# Altium schematic symbol library Schlib_Xilinx.SchLib: 18 symbols (part 2 of 5)
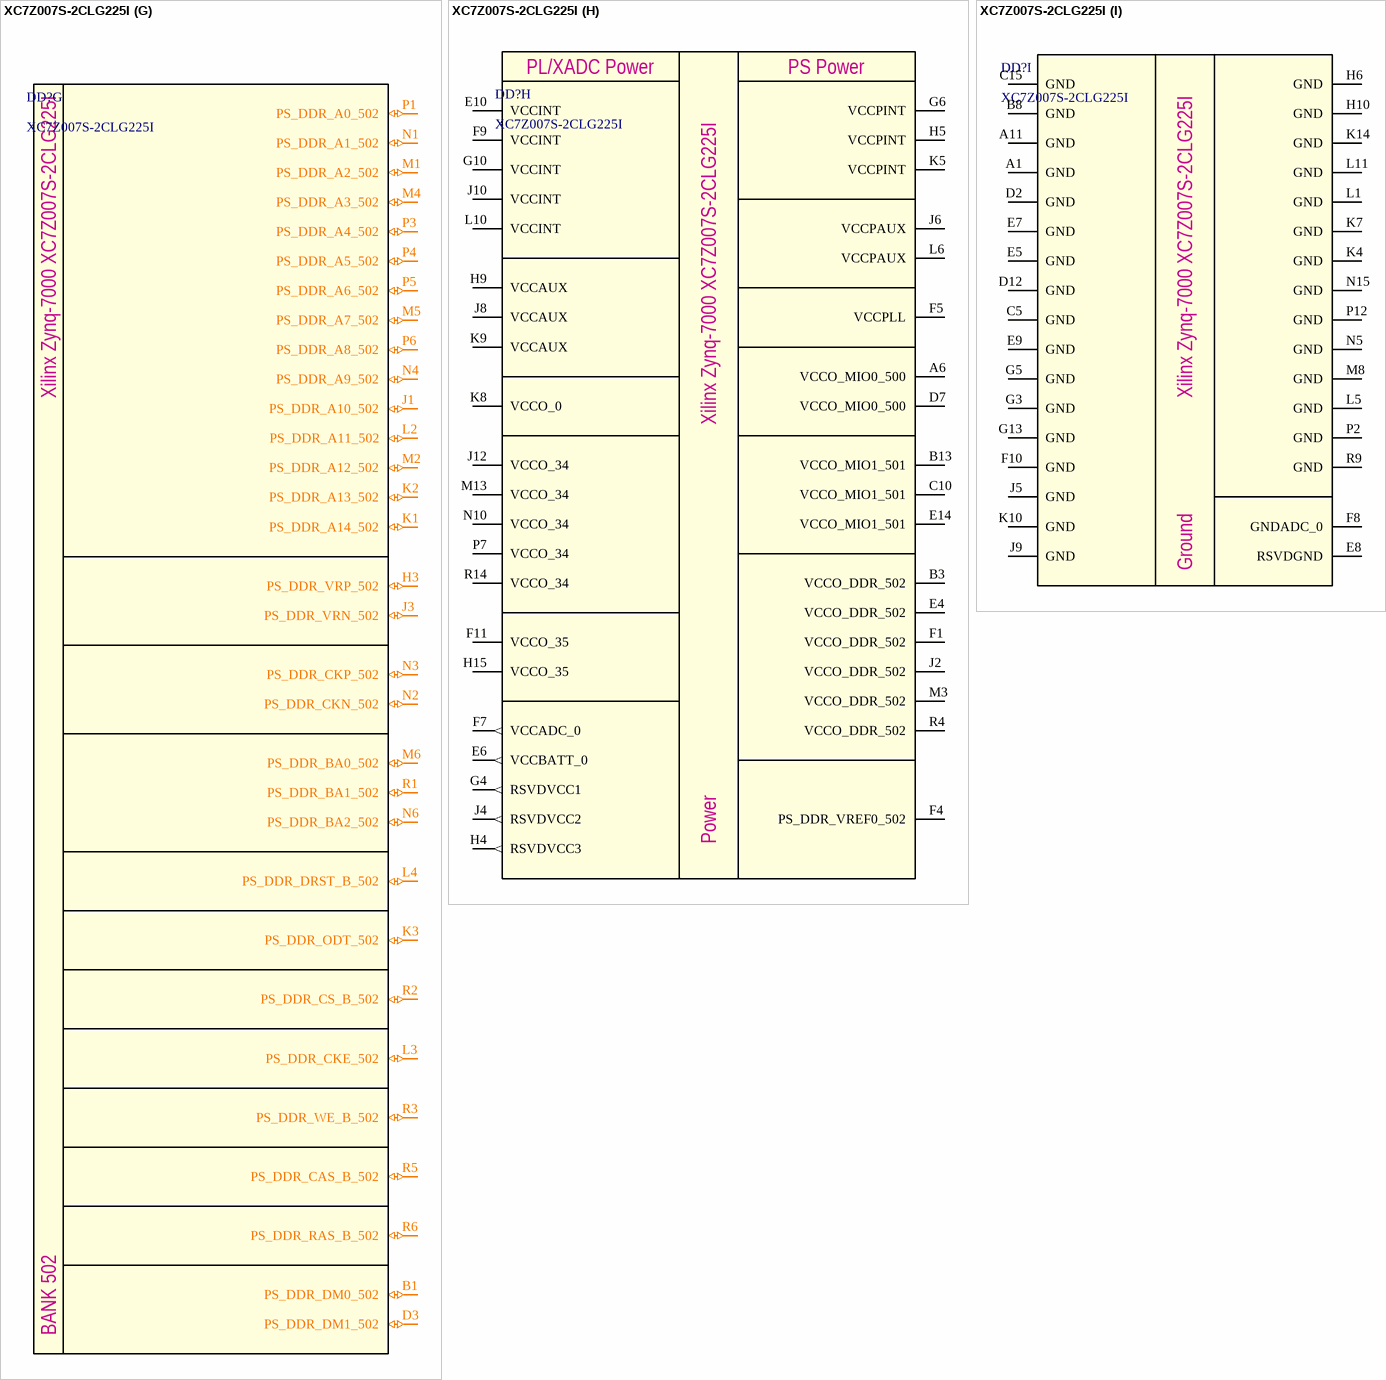
[diagram p58: symbol XC7Z007S-2CLG225I]

## XC7Z007S-2CLG225I
designator DD?
Zynq-7000 Series SoC, Speed Grade 2, Industrial Grade; Manufacturer: Xilinx; Speed Grade: -2; PackageReference: FBG225; Part Number: XC7Z007S-2CLG225I
footprint CLG225 (CLG225, 225-Leads, Body 15.00x15.00mmx1.50mm, Pitch 0.80mm)
part A pins: D5 INIT_B_0 (in), F6 CFGBVS_0 (in), G7 VP_0 (in), G8 VREFN_0 (in), G9 TCK_0 (in), H7 VREFP_0 (in), H8 VN_0 (in), J7 DXP_0 (in), K6 PROGRAM_B_0 (in), L7 TDI_0 (in), L8 TDO_0 (out), L9 TMS_0 (in), M7 DONE_0 (out)
part B pins: G11 IO_L1P_T0_34 (io), G12 IO_L2P_T0_34 (io), G14 IO_L3P_T0_DQS_PUDC_B_34 (io), H11 IO_L6P_T0_34 (io), H12 IO_L1N_T0_34 (io), H13 IO_L2N_T0_34 (io), H14 IO_L3N_T0_DQS_34 (io), J11 IO_L6N_T0_VREF_34 (io), J13 IO_L5P_T0_34 (io), J14 IO_L5N_T0_34 (io), J15 IO_L4P_T0_34 (io), K11 IO_L11P_T1_SRCC_34 (io), K12 IO_L11N_T1_SRCC_34 (io), K13 IO_L10P_T1_34 (io), K15 IO_L4N_T0_34 (io), L12 IO_L12P_T1_MRCC_34 (io), L13 IO_L10N_T1_34 (io), L14 IO_L9P_T1_DQS_34 (io), L15 IO_L8P_T1_34 (io), M9 IO_L19P_T3_34 (io), M10 IO_L21P_T3_DQS_34 (io), M11 IO_L21N_T3_DQS_34 (io), M12 IO_L12N_T1_MRCC_34 (io), M14 IO_L9N_T1_DQS_34 (io), M15 IO_L8N_T1_34 (io), N7 IO_L22P_T3_34 (io), N8 IO_L22N_T3_34 (io), N9 IO_L19N_T3_VREF_34 (io), N11 IO_L13P_T2_MRCC_34 (io), N12 IO_L13N_T2_MRCC_34 (io), N13 IO_L7P_T1_34 (io), N14 IO_L7N_T1_34 (io), P8 IO_L23P_T3_34 (io), P9 IO_L23N_T3_34 (io), P10 IO_L24P_T3_34 (io), P11 IO_L16P_T2_34 (io), P13 IO_L18P_T2_34 (io), P14 IO_L18N_T2_34 (io), P15 IO_L15P_T2_DQS_34 (io), R7 IO_L20P_T3_34 (io), R8 IO_L20N_T3_34 (io), R10 IO_L24N_T3_34 (io), R11 IO_L16N_T2_34 (io), R12 IO_L17P_T2_34 (io), R13 IO_L17N_T2_34 (io), R15 IO_L15N_T2_DQS_34 (io)
part C pins: E11 IO_L2P_T0_AD8P_35 (io), E12 IO_L2N_T0_AD8N_35 (io), E13 IO_L1N_T0_AD0N_35 (io), F12 IO_L1P_T0_AD0P_35 (io), F13 IO_L3P_T0_DQS_AD1P_35 (io), F14 IO_L3N_T0_DQS_AD1N_35 (io), F15 IO_L5N_T0_AD9N_35 (io), G15 IO_L5P_T0_AD9P_35 (io)
part D pins: A5 PS_MIO1_500 (io), A7 PS_MIO3_500 (io), A8 PS_MIO2_500 (io), A9 PS_MIO5_500 (io), A10 PS_MIO6_500 (io), B5 PS_MIO9_500 (io), B6 PS_MIO8_500 (io), B7 PS_MIO12_500 (io), B9 PS_MIO14_500 (io), B10 PS_MIO11_500 (io), C6 PS_MIO13_500 (io), C7 PS_CLK_500 (io), C8 PS_MIO4_500 (io), C9 PS_POR_B_500 (io), D6 PS_MIO10_500 (io), D8 PS_MIO0_500 (io), D9 PS_MIO7_500 (io), D10 PS_MIO15_500 (io)
part E pins: A12 PS_MIO52_501 (io), A13 PS_MIO38_501 (io), A14 PS_MIO35_501 (io), A15 PS_MIO28_501 (io), B11 PS_SRST_B_501 (io), B12 PS_MIO48_501 (io), B14 PS_MIO36_501 (io), B15 PS_MIO30_501 (io), C11 PS_MIO33_501 (io), C12 PS_MIO31_501 (io), C13 PS_MIO53_501 (io), C14 PS_MIO37_501 (io), D11 PS_MIO29_501 (io), D13 PS_MIO49_501 (io), D14 PS_MIO39_501 (io), D15 PS_MIO34_501 (io), E15 PS_MIO32_501 (io)
part F pins: A2 PS_DDR_DQ1_502 (io), A3 PS_DDR_DQ7_502 (io), A4 PS_DDR_DQ5_502 (io), B2 PS_DDR_DQS_N0_502 (io), B4 PS_DDR_DQ4_502 (io), C1 PS_DDR_DQ3_502 (io), C2 PS_DDR_DQS_P0_502 (io), C3 PS_DDR_DQ6_502 (io), C4 PS_DDR_DQ2_502 (io), D1 PS_DDR_DQ9_502 (io), D4 PS_DDR_DQ0_502 (io), E1 PS_DDR_DQ8_502 (io), E2 PS_DDR_DQ10_502 (io), E3 PS_DDR_DQ11_502 (io), F2 PS_DDR_DQS_N1_502 (io), F3 PS_DDR_DQ12_502 (io), G1 PS_DDR_DQ13_502 (io), G2 PS_DDR_DQS_P1_502 (io), H1 PS_DDR_DQ14_502 (io), H2 PS_DDR_DQ15_502 (io)
part G pins: B1 PS_DDR_DM0_502 (io), D3 PS_DDR_DM1_502 (io), H3 PS_DDR_VRP_502 (io), J1 PS_DDR_A10_502 (io), J3 PS_DDR_VRN_502 (io), K1 PS_DDR_A14_502 (io), K2 PS_DDR_A13_502 (io), K3 PS_DDR_ODT_502 (io), L2 PS_DDR_A11_502 (io), L3 PS_DDR_CKE_502 (io), L4 PS_DDR_DRST_B_502 (io), M1 PS_DDR_A2_502 (io), M2 PS_DDR_A12_502 (io), M4 PS_DDR_A3_502 (io), M5 PS_DDR_A7_502 (io), M6 PS_DDR_BA0_502 (io), N1 PS_DDR_A1_502 (io), N2 PS_DDR_CKN_502 (io), N3 PS_DDR_CKP_502 (io), N4 PS_DDR_A9_502 (io), N6 PS_DDR_BA2_502 (io), P1 PS_DDR_A0_502 (io), P3 PS_DDR_A4_502 (io), P4 PS_DDR_A5_502 (io), P5 PS_DDR_A6_502 (io), P6 PS_DDR_A8_502 (io), R1 PS_DDR_BA1_502 (io), R2 PS_DDR_CS_B_502 (io), R3 PS_DDR_WE_B_502 (io), R5 PS_DDR_CAS_B_502 (io), R6 PS_DDR_RAS_B_502 (io)
part H pins: A6 VCCO_MIO0_500 (power), B3 VCCO_DDR_502 (power), B13 VCCO_MIO1_501 (power), C10 VCCO_MIO1_501 (power), D7 VCCO_MIO0_500 (power), E4 VCCO_DDR_502 (power), E6 VCCBATT_0 (out), E10 VCCINT (power), E14 VCCO_MIO1_501 (power), F1 VCCO_DDR_502 (power), F4 PS_DDR_VREF0_502 (power), F5 VCCPLL (power), F7 VCCADC_0 (out), F9 VCCINT (power), F11 VCCO_35 (power), G4 RSVDVCC1 (out), G6 VCCPINT (power), G10 VCCINT (power), H4 RSVDVCC3 (out), H5 VCCPINT (power), H9 VCCAUX (power), H15 VCCO_35 (power), J2 VCCO_DDR_502 (power), J4 RSVDVCC2 (out), J6 VCCPAUX (power), J8 VCCAUX (power), J10 VCCINT (power), J12 VCCO_34 (power), K5 VCCPINT (power), K8 VCCO_0 (power), K9 VCCAUX (power), L6 VCCPAUX (power), L10 VCCINT (power), M3 VCCO_DDR_502 (power), M13 VCCO_34 (power), N10 VCCO_34 (power), P7 VCCO_34 (power), R4 VCCO_DDR_502 (power), R14 VCCO_34 (power)
part I pins: A1 GND (power), A11 GND (power), B8 GND (power), C5 GND (power), C15 GND (power), D2 GND (power), D12 GND (power), E5 GND (power), E7 GND (power), E8 RSVDGND (power), E9 GND (power), F8 GNDADC_0 (power), F10 GND (power), G3 GND (power), G5 GND (power), G13 GND (power), H6 GND (power), H10 GND (power), J5 GND (power), J9 GND (power), K4 GND (power), K7 GND (power), K10 GND (power), K14 GND (power), L1 GND (power), L5 GND (power), L11 GND (power), M8 GND (power), N5 GND (power), N15 GND (power), P2 GND (power), P12 GND (power), R9 GND (power)
part A text: Xilinx Zynq-7000 XC7Z007S-2CLG225I; BANK 0
part B text: Xilinx Zynq-7000 XC7Z007S-2CLG225I; BANK 34
part C text: Xilinx Zynq-7000 XC7Z007S-2CLG225I; BANK 35
part D text: Xilinx Zynq-7000 XC7Z007S-2CLG225I; BANK 500
part E text: Xilinx Zynq-7000 XC7Z007S-2CLG225I; BANK 501
part F text: Xilinx Zynq-7000 XC7Z007S-2CLG225I; BANK 502
part G text: Xilinx Zynq-7000 XC7Z007S-2CLG225I; BANK 502
part H text: PL/XADC Power; PS Power; Xilinx Zynq-7000 XC7Z007S-2CLG225I; Power
part I text: Xilinx Zynq-7000 XC7Z007S-2CLG225I; Ground

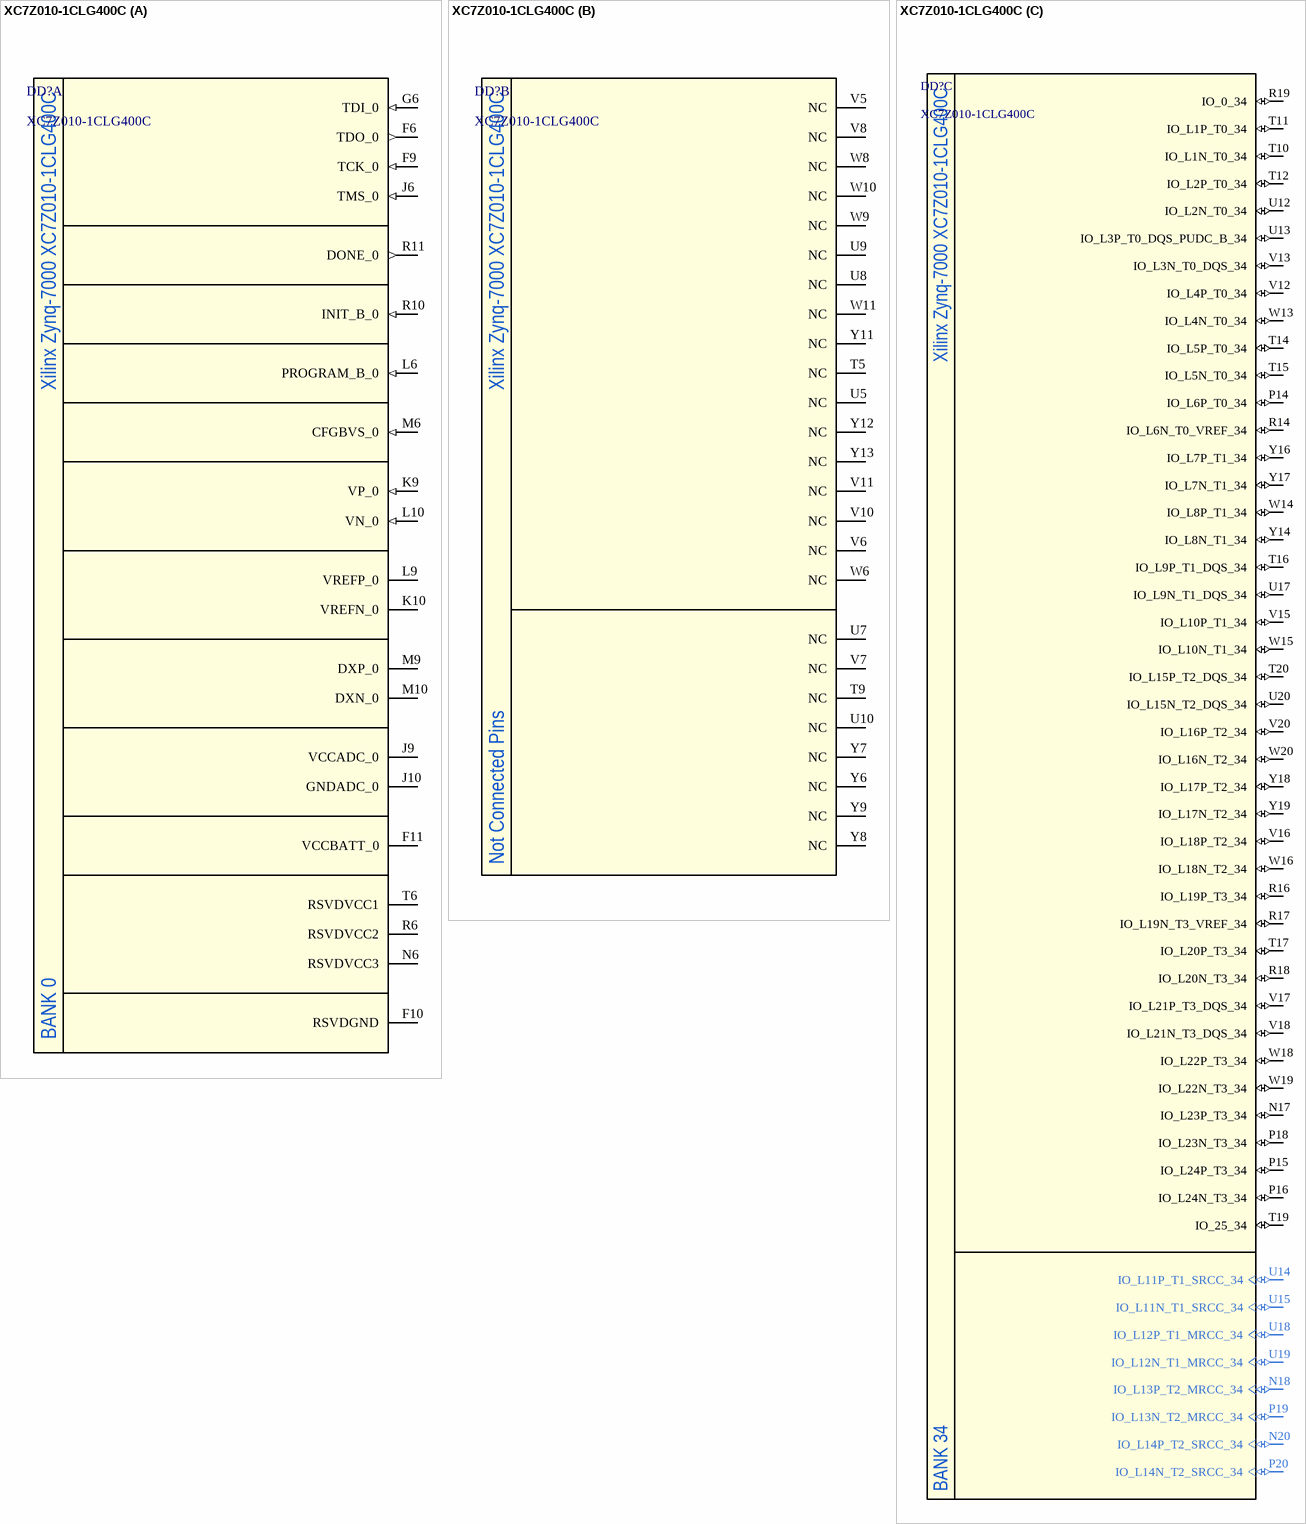
[diagram p15: symbol XC7Z010-1CLG400C]

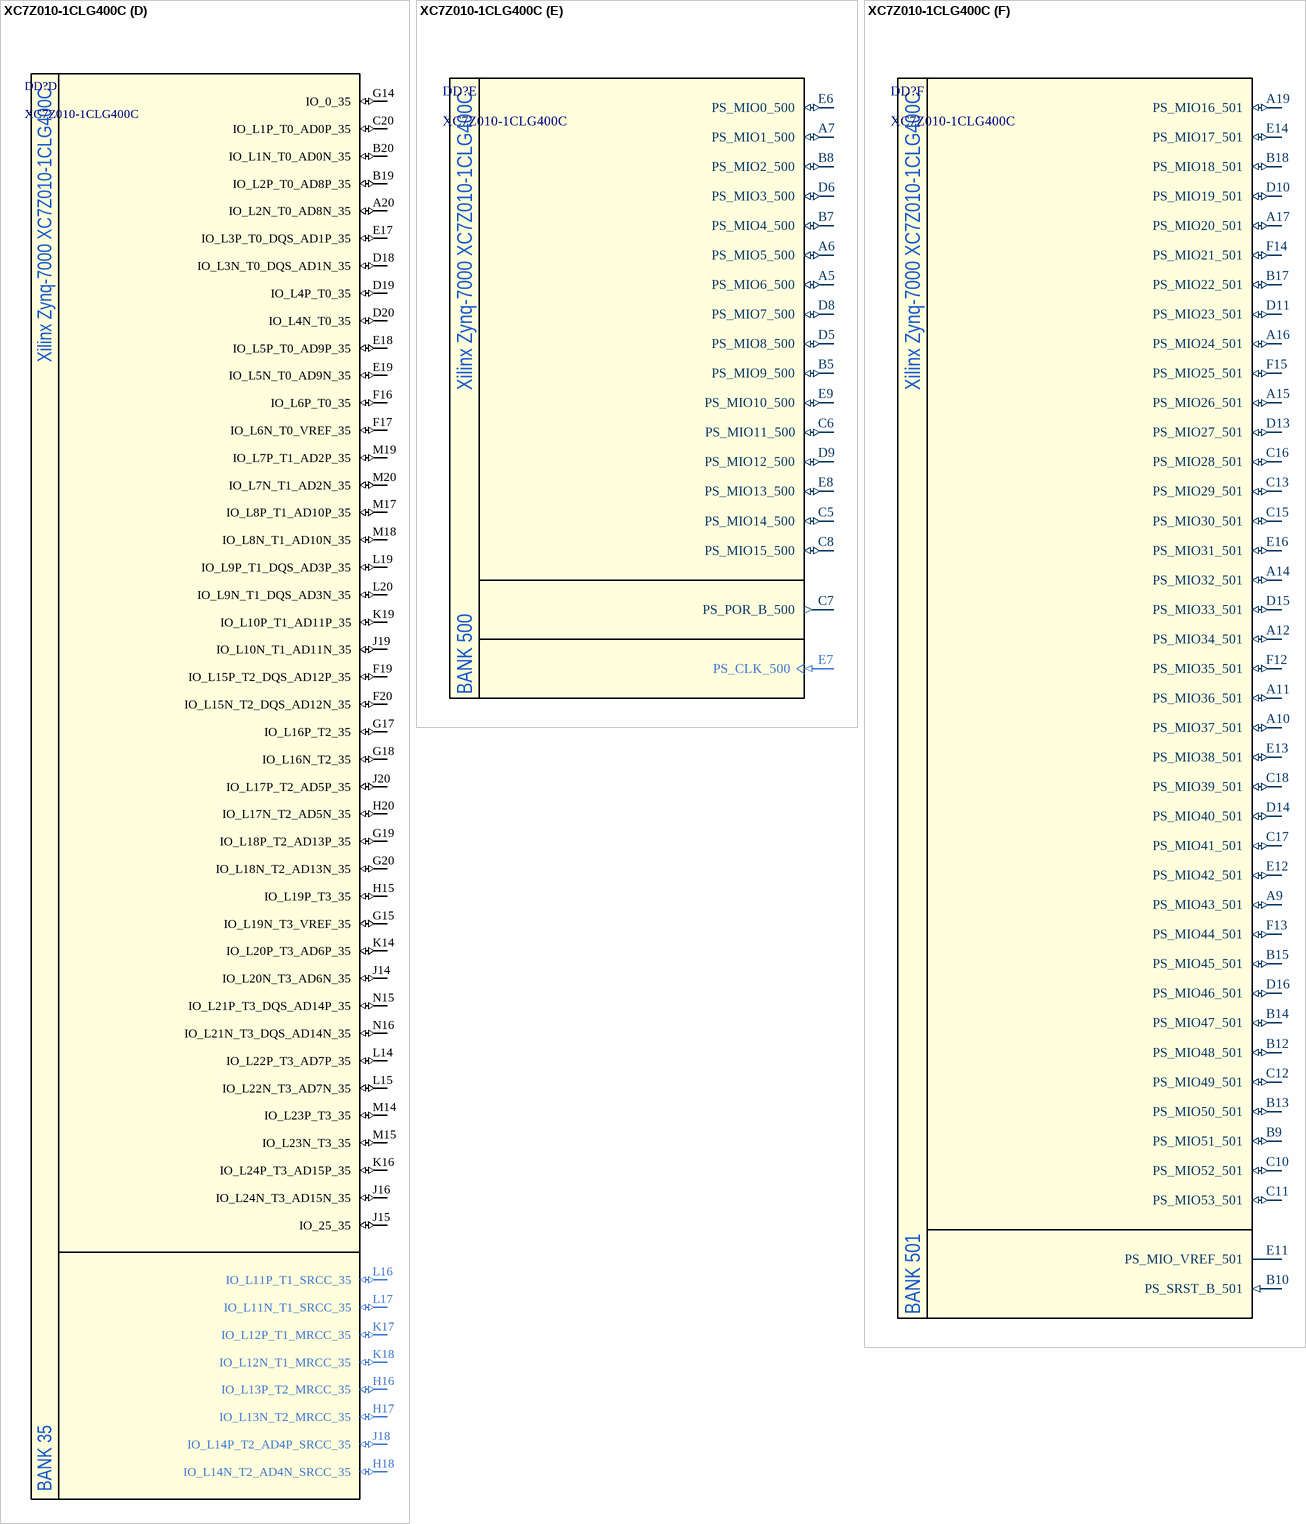
[diagram p16: symbol XC7Z010-1CLG400C]

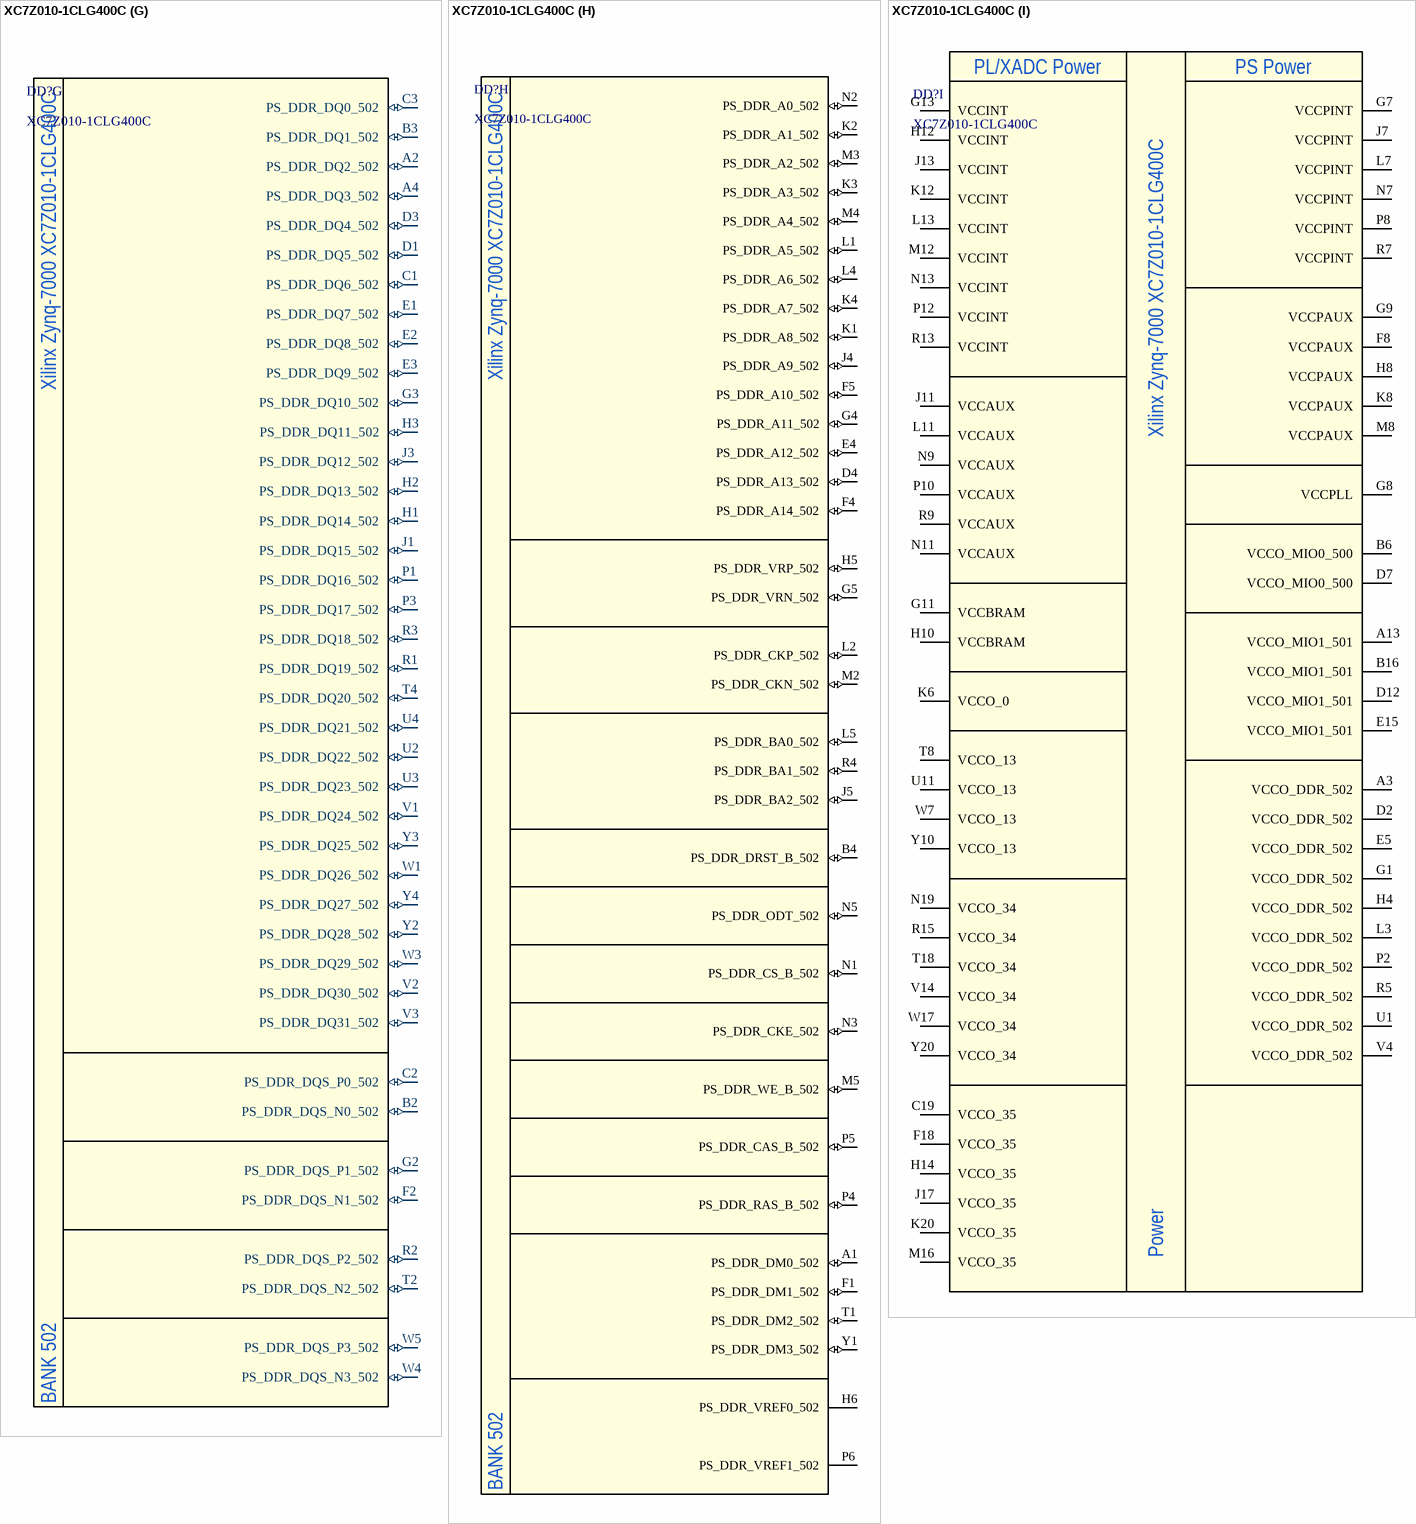
[diagram p17: symbol XC7Z010-1CLG400C]

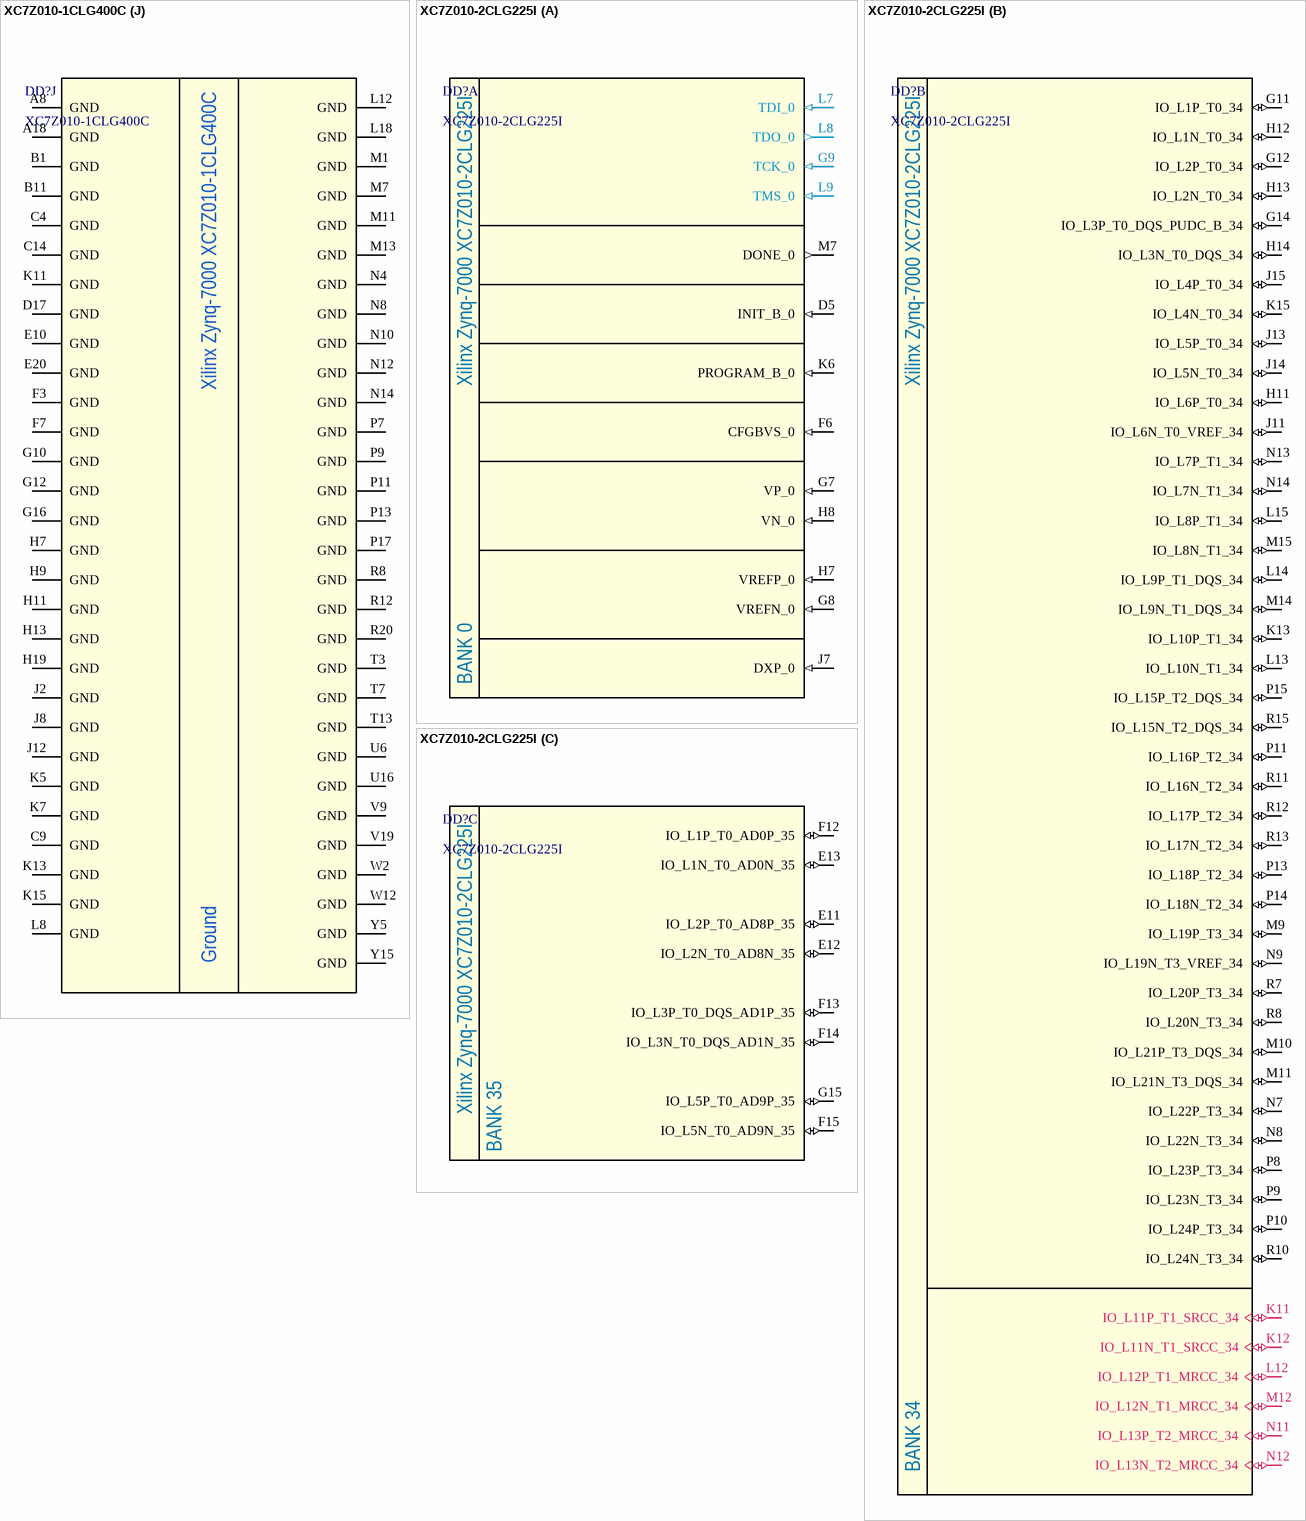
[diagram p18: symbols XC7Z010-1CLG400C to XC7Z010-2CLG225I]

## XC7Z010-1CLG400C
designator DD?
Zynq-7000 Series SoC, Speed Grade 1; Manufacturer: Xilinx; Speed Grade: -1; PackageReference: CSPBGA-400; Part Number: XC7Z010-1CLG400C
footprint CLG400 (CLG400 Package for Zynq-7000 Series SoC)
part A pins: F6 TDO_0 (out), F9 TCK_0 (in), F10 RSVDGND (power), F11 VCCBATT_0 (power), G6 TDI_0 (in), J6 TMS_0 (in), J9 VCCADC_0 (power), J10 GNDADC_0 (power), K9 VP_0 (in), K10 VREFN_0, L6 PROGRAM_B_0 (in), L9 VREFP_0, L10 VN_0 (in), M6 CFGBVS_0 (in), M9 DXP_0, M10 DXN_0, N6 RSVDVCC3 (power), R6 RSVDVCC2 (power), R10 INIT_B_0 (in), R11 DONE_0 (out), T6 RSVDVCC1 (power)
part B pins: T5 NC (hiz), T9 NC (hiz), U5 NC (hiz), U7 NC (hiz), U8 NC (hiz), U9 NC (hiz), U10 NC (hiz), V5 NC (hiz), V6 NC (hiz), V7 NC (hiz), V8 NC (hiz), V10 NC (hiz), V11 NC (hiz), W6 NC (hiz), W8 NC (hiz), W9 NC (hiz), W10 NC (hiz), W11 NC (hiz), Y6 NC (hiz), Y7 NC (hiz), Y8 NC (hiz), Y9 NC (hiz), Y11 NC (hiz), Y12 NC (hiz), Y13 NC (hiz)
part C pins: N17 IO_L23P_T3_34 (io), N18 IO_L13P_T2_MRCC_34 (io), N20 IO_L14P_T2_SRCC_34 (io), P14 IO_L6P_T0_34 (io), P15 IO_L24P_T3_34 (io), P16 IO_L24N_T3_34 (io), P18 IO_L23N_T3_34 (io), P19 IO_L13N_T2_MRCC_34 (io), P20 IO_L14N_T2_SRCC_34 (io), R14 IO_L6N_T0_VREF_34 (io), R16 IO_L19P_T3_34 (io), R17 IO_L19N_T3_VREF_34 (io), R18 IO_L20N_T3_34 (io), R19 IO_0_34 (io), T10 IO_L1N_T0_34 (io), T11 IO_L1P_T0_34 (io), T12 IO_L2P_T0_34 (io), T14 IO_L5P_T0_34 (io), T15 IO_L5N_T0_34 (io), T16 IO_L9P_T1_DQS_34 (io), T17 IO_L20P_T3_34 (io), T19 IO_25_34 (io), T20 IO_L15P_T2_DQS_34 (io), U12 IO_L2N_T0_34 (io), U13 IO_L3P_T0_DQS_PUDC_B_34 (io), U14 IO_L11P_T1_SRCC_34 (io), U15 IO_L11N_T1_SRCC_34 (io), U17 IO_L9N_T1_DQS_34 (io), U18 IO_L12P_T1_MRCC_34 (io), U19 IO_L12N_T1_MRCC_34 (io), U20 IO_L15N_T2_DQS_34 (io), V12 IO_L4P_T0_34 (io), V13 IO_L3N_T0_DQS_34 (io), V15 IO_L10P_T1_34 (io), V16 IO_L18P_T2_34 (io), V17 IO_L21P_T3_DQS_34 (io), V18 IO_L21N_T3_DQS_34 (io), V20 IO_L16P_T2_34 (io), W13 IO_L4N_T0_34 (io), W14 IO_L8P_T1_34 (io), W15 IO_L10N_T1_34 (io), W16 IO_L18N_T2_34 (io), W18 IO_L22P_T3_34 (io), W19 IO_L22N_T3_34 (io), W20 IO_L16N_T2_34 (io), Y14 IO_L8N_T1_34 (io), Y16 IO_L7P_T1_34 (io), Y17 IO_L7N_T1_34 (io), Y18 IO_L17P_T2_34 (io), Y19 IO_L17N_T2_34 (io)
part D pins: A20 IO_L2N_T0_AD8N_35 (io), B19 IO_L2P_T0_AD8P_35 (io), B20 IO_L1N_T0_AD0N_35 (io), C20 IO_L1P_T0_AD0P_35 (io), D18 IO_L3N_T0_DQS_AD1N_35 (io), D19 IO_L4P_T0_35 (io), D20 IO_L4N_T0_35 (io), E17 IO_L3P_T0_DQS_AD1P_35 (io), E18 IO_L5P_T0_AD9P_35 (io), E19 IO_L5N_T0_AD9N_35 (io), F16 IO_L6P_T0_35 (io), F17 IO_L6N_T0_VREF_35 (io), F19 IO_L15P_T2_DQS_AD12P_35 (io), F20 IO_L15N_T2_DQS_AD12N_35 (io), G14 IO_0_35 (io), G15 IO_L19N_T3_VREF_35 (io), G17 IO_L16P_T2_35 (io), G18 IO_L16N_T2_35 (io), G19 IO_L18P_T2_AD13P_35 (io), G20 IO_L18N_T2_AD13N_35 (io), H15 IO_L19P_T3_35 (io), H16 IO_L13P_T2_MRCC_35 (io), H17 IO_L13N_T2_MRCC_35 (io), H18 IO_L14N_T2_AD4N_SRCC_35 (io), H20 IO_L17N_T2_AD5N_35 (io), J14 IO_L20N_T3_AD6N_35 (io), J15 IO_25_35 (io), J16 IO_L24N_T3_AD15N_35 (io), J18 IO_L14P_T2_AD4P_SRCC_35 (io), J19 IO_L10N_T1_AD11N_35 (io), J20 IO_L17P_T2_AD5P_35 (io), K14 IO_L20P_T3_AD6P_35 (io), K16 IO_L24P_T3_AD15P_35 (io), K17 IO_L12P_T1_MRCC_35 (io), K18 IO_L12N_T1_MRCC_35 (io), K19 IO_L10P_T1_AD11P_35 (io), L14 IO_L22P_T3_AD7P_35 (io), L15 IO_L22N_T3_AD7N_35 (io), L16 IO_L11P_T1_SRCC_35 (io), L17 IO_L11N_T1_SRCC_35 (io), L19 IO_L9P_T1_DQS_AD3P_35 (io), L20 IO_L9N_T1_DQS_AD3N_35 (io), M14 IO_L23P_T3_35 (io), M15 IO_L23N_T3_35 (io), M17 IO_L8P_T1_AD10P_35 (io), M18 IO_L8N_T1_AD10N_35 (io), M19 IO_L7P_T1_AD2P_35 (io), M20 IO_L7N_T1_AD2N_35 (io), N15 IO_L21P_T3_DQS_AD14P_35 (io), N16 IO_L21N_T3_DQS_AD14N_35 (io)
part E pins: A5 PS_MIO6_500 (io), A6 PS_MIO5_500 (io), A7 PS_MIO1_500 (io), B5 PS_MIO9_500 (io), B7 PS_MIO4_500 (io), B8 PS_MIO2_500 (io), C5 PS_MIO14_500 (io), C6 PS_MIO11_500 (io), C7 PS_POR_B_500 (out), C8 PS_MIO15_500 (io), D5 PS_MIO8_500 (io), D6 PS_MIO3_500 (io), D8 PS_MIO7_500 (io), D9 PS_MIO12_500 (io), E6 PS_MIO0_500 (io), E7 PS_CLK_500 (in), E8 PS_MIO13_500 (io), E9 PS_MIO10_500 (io)
part F pins: A9 PS_MIO43_501 (io), A10 PS_MIO37_501 (io), A11 PS_MIO36_501 (io), A12 PS_MIO34_501 (io), A14 PS_MIO32_501 (io), A15 PS_MIO26_501 (io), A16 PS_MIO24_501 (io), A17 PS_MIO20_501 (io), A19 PS_MIO16_501 (io), B9 PS_MIO51_501 (io), B10 PS_SRST_B_501 (in), B12 PS_MIO48_501 (io), B13 PS_MIO50_501 (io), B14 PS_MIO47_501 (io), B15 PS_MIO45_501 (io), B17 PS_MIO22_501 (io), B18 PS_MIO18_501 (io), C10 PS_MIO52_501 (io), C11 PS_MIO53_501 (io), C12 PS_MIO49_501 (io), C13 PS_MIO29_501 (io), C15 PS_MIO30_501 (io), C16 PS_MIO28_501 (io), C17 PS_MIO41_501 (io), C18 PS_MIO39_501 (io), D10 PS_MIO19_501 (io), D11 PS_MIO23_501 (io), D13 PS_MIO27_501 (io), D14 PS_MIO40_501 (io), D15 PS_MIO33_501 (io), D16 PS_MIO46_501 (io), E11 PS_MIO_VREF_501, E12 PS_MIO42_501 (io), E13 PS_MIO38_501 (io), E14 PS_MIO17_501 (io), E16 PS_MIO31_501 (io), F12 PS_MIO35_501 (io), F13 PS_MIO44_501 (io), F14 PS_MIO21_501 (io), F15 PS_MIO25_501 (io)
part G pins: A2 PS_DDR_DQ2_502 (io), A4 PS_DDR_DQ3_502 (io), B2 PS_DDR_DQS_N0_502 (io), B3 PS_DDR_DQ1_502 (io), C1 PS_DDR_DQ6_502 (io), C2 PS_DDR_DQS_P0_502 (io), C3 PS_DDR_DQ0_502 (io), D1 PS_DDR_DQ5_502 (io), D3 PS_DDR_DQ4_502 (io), E1 PS_DDR_DQ7_502 (io), E2 PS_DDR_DQ8_502 (io), E3 PS_DDR_DQ9_502 (io), F2 PS_DDR_DQS_N1_502 (io), G2 PS_DDR_DQS_P1_502 (io), G3 PS_DDR_DQ10_502 (io), H1 PS_DDR_DQ14_502 (io), H2 PS_DDR_DQ13_502 (io), H3 PS_DDR_DQ11_502 (io), J1 PS_DDR_DQ15_502 (io), J3 PS_DDR_DQ12_502 (io), P1 PS_DDR_DQ16_502 (io), P3 PS_DDR_DQ17_502 (io), R1 PS_DDR_DQ19_502 (io), R2 PS_DDR_DQS_P2_502 (io), R3 PS_DDR_DQ18_502 (io), T2 PS_DDR_DQS_N2_502 (io), T4 PS_DDR_DQ20_502 (io), U2 PS_DDR_DQ22_502 (io), U3 PS_DDR_DQ23_502 (io), U4 PS_DDR_DQ21_502 (io), V1 PS_DDR_DQ24_502 (io), V2 PS_DDR_DQ30_502 (io), V3 PS_DDR_DQ31_502 (io), W1 PS_DDR_DQ26_502 (io), W3 PS_DDR_DQ29_502 (io), W4 PS_DDR_DQS_N3_502 (io), W5 PS_DDR_DQS_P3_502 (io), Y2 PS_DDR_DQ28_502 (io), Y3 PS_DDR_DQ25_502 (io), Y4 PS_DDR_DQ27_502 (io)
part H pins: A1 PS_DDR_DM0_502 (io), B4 PS_DDR_DRST_B_502 (io), D4 PS_DDR_A13_502 (io), E4 PS_DDR_A12_502 (io), F1 PS_DDR_DM1_502 (io), F4 PS_DDR_A14_502 (io), F5 PS_DDR_A10_502 (io), G4 PS_DDR_A11_502 (io), G5 PS_DDR_VRN_502 (io), H5 PS_DDR_VRP_502 (io), H6 PS_DDR_VREF0_502, J4 PS_DDR_A9_502 (io), J5 PS_DDR_BA2_502 (io), K1 PS_DDR_A8_502 (io), K2 PS_DDR_A1_502 (io), K3 PS_DDR_A3_502 (io), K4 PS_DDR_A7_502 (io), L1 PS_DDR_A5_502 (io), L2 PS_DDR_CKP_502 (io), L4 PS_DDR_A6_502 (io), L5 PS_DDR_BA0_502 (io), M2 PS_DDR_CKN_502 (io), M3 PS_DDR_A2_502 (io), M4 PS_DDR_A4_502 (io), M5 PS_DDR_WE_B_502 (io), N1 PS_DDR_CS_B_502 (io), N2 PS_DDR_A0_502 (io), N3 PS_DDR_CKE_502 (io), N5 PS_DDR_ODT_502 (io), P4 PS_DDR_RAS_B_502 (io), P5 PS_DDR_CAS_B_502 (io), P6 PS_DDR_VREF1_502, R4 PS_DDR_BA1_502 (io), T1 PS_DDR_DM2_502 (io), Y1 PS_DDR_DM3_502 (io)
part I pins: A3 VCCO_DDR_502 (power), A13 VCCO_MIO1_501 (power), B6 VCCO_MIO0_500 (power), B16 VCCO_MIO1_501 (power), C19 VCCO_35 (power), D2 VCCO_DDR_502 (power), D7 VCCO_MIO0_500 (power), D12 VCCO_MIO1_501 (power), E5 VCCO_DDR_502 (power), E15 VCCO_MIO1_501 (power), F8 VCCPAUX (power), F18 VCCO_35 (power), G1 VCCO_DDR_502 (power), G7 VCCPINT (power), G8 VCCPLL (power), G9 VCCPAUX (power), G11 VCCBRAM (power), G13 VCCINT (power), H4 VCCO_DDR_502 (power), H8 VCCPAUX (power), H10 VCCBRAM (power), H12 VCCINT (power), H14 VCCO_35 (power), J7 VCCPINT (power), J11 VCCAUX (power), J13 VCCINT (power), J17 VCCO_35 (power), K6 VCCO_0 (power), K8 VCCPAUX (power), K12 VCCINT (power), K20 VCCO_35 (power), L3 VCCO_DDR_502 (power), L7 VCCPINT (power), L11 VCCAUX (power), L13 VCCINT (power), M8 VCCPAUX (power), M12 VCCINT (power), M16 VCCO_35 (power), N7 VCCPINT (power), N9 VCCAUX (power), N11 VCCAUX (power), N13 VCCINT (power), N19 VCCO_34 (power), P2 VCCO_DDR_502 (power), P8 VCCPINT (power), P10 VCCAUX (power), P12 VCCINT (power), R5 VCCO_DDR_502 (power), R7 VCCPINT (power), R9 VCCAUX (power), R13 VCCINT (power), R15 VCCO_34 (power), T8 VCCO_13 (power), T18 VCCO_34 (power), U1 VCCO_DDR_502 (power), U11 VCCO_13 (power), V4 VCCO_DDR_502 (power), V14 VCCO_34 (power), W7 VCCO_13 (power), W17 VCCO_34 (power), Y10 VCCO_13 (power), Y20 VCCO_34 (power)
part J pins: A8 GND (power), A18 GND (power), B1 GND (power), B11 GND (power), C4 GND (power), C9 GND (power), C14 GND (power), D17 GND (power), E10 GND (power), E20 GND (power), F3 GND (power), F7 GND (power), G10 GND (power), G12 GND (power), G16 GND (power), H7 GND (power), H9 GND (power), H11 GND (power), H13 GND (power), H19 GND (power), J2 GND (power), J8 GND (power), J12 GND (power), K5 GND (power), K7 GND (power), K11 GND (power), K13 GND (power), K15 GND (power), L8 GND (power), L12 GND (power), L18 GND (power), M1 GND (power), M7 GND (power), M11 GND (power), M13 GND (power), N4 GND (power), N8 GND (power), N10 GND (power), N12 GND (power), N14 GND (power), P7 GND (power), P9 GND (power), P11 GND (power), P13 GND (power), P17 GND (power), R8 GND (power), R12 GND (power), R20 GND (power), T3 GND (power), T7 GND (power), T13 GND (power), U6 GND (power), U16 GND (power), V9 GND (power), V19 GND (power), W2 GND (power), W12 GND (power), Y5 GND (power), Y15 GND (power)
part A text: Xilinx Zynq-7000 XC7Z010-1CLG400C; BANK 0
part B text: Xilinx Zynq-7000 XC7Z010-1CLG400C; Not Connected Pins
part C text: Xilinx Zynq-7000 XC7Z010-1CLG400C; BANK 34
part D text: Xilinx Zynq-7000 XC7Z010-1CLG400C; BANK 35
part E text: Xilinx Zynq-7000 XC7Z010-1CLG400C; BANK 500
part F text: Xilinx Zynq-7000 XC7Z010-1CLG400C; BANK 501
part G text: Xilinx Zynq-7000 XC7Z010-1CLG400C; BANK 502
part H text: Xilinx Zynq-7000 XC7Z010-1CLG400C; BANK 502
part I text: PL/XADC Power; PS Power; Xilinx Zynq-7000 XC7Z010-1CLG400C; Power
part J text: Xilinx Zynq-7000 XC7Z010-1CLG400C; Ground

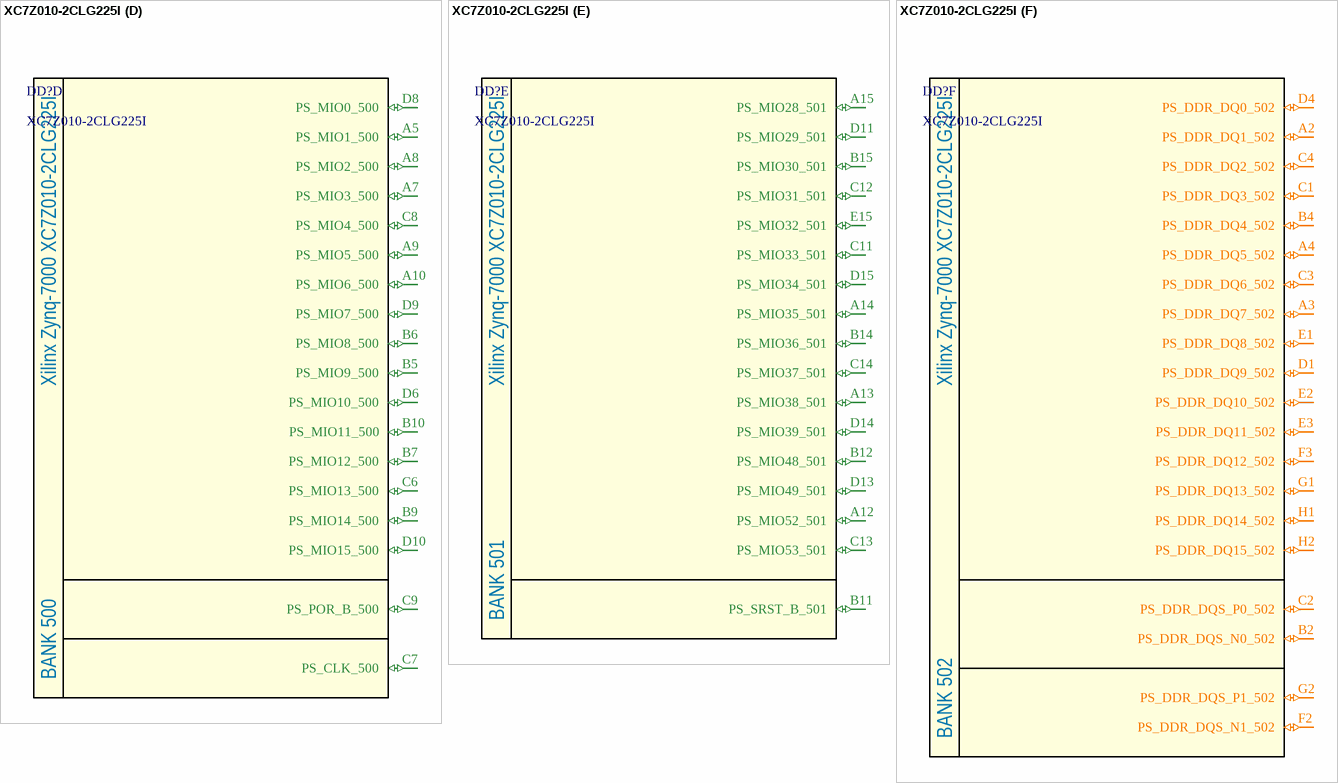
[diagram p19: symbol XC7Z010-2CLG225I]

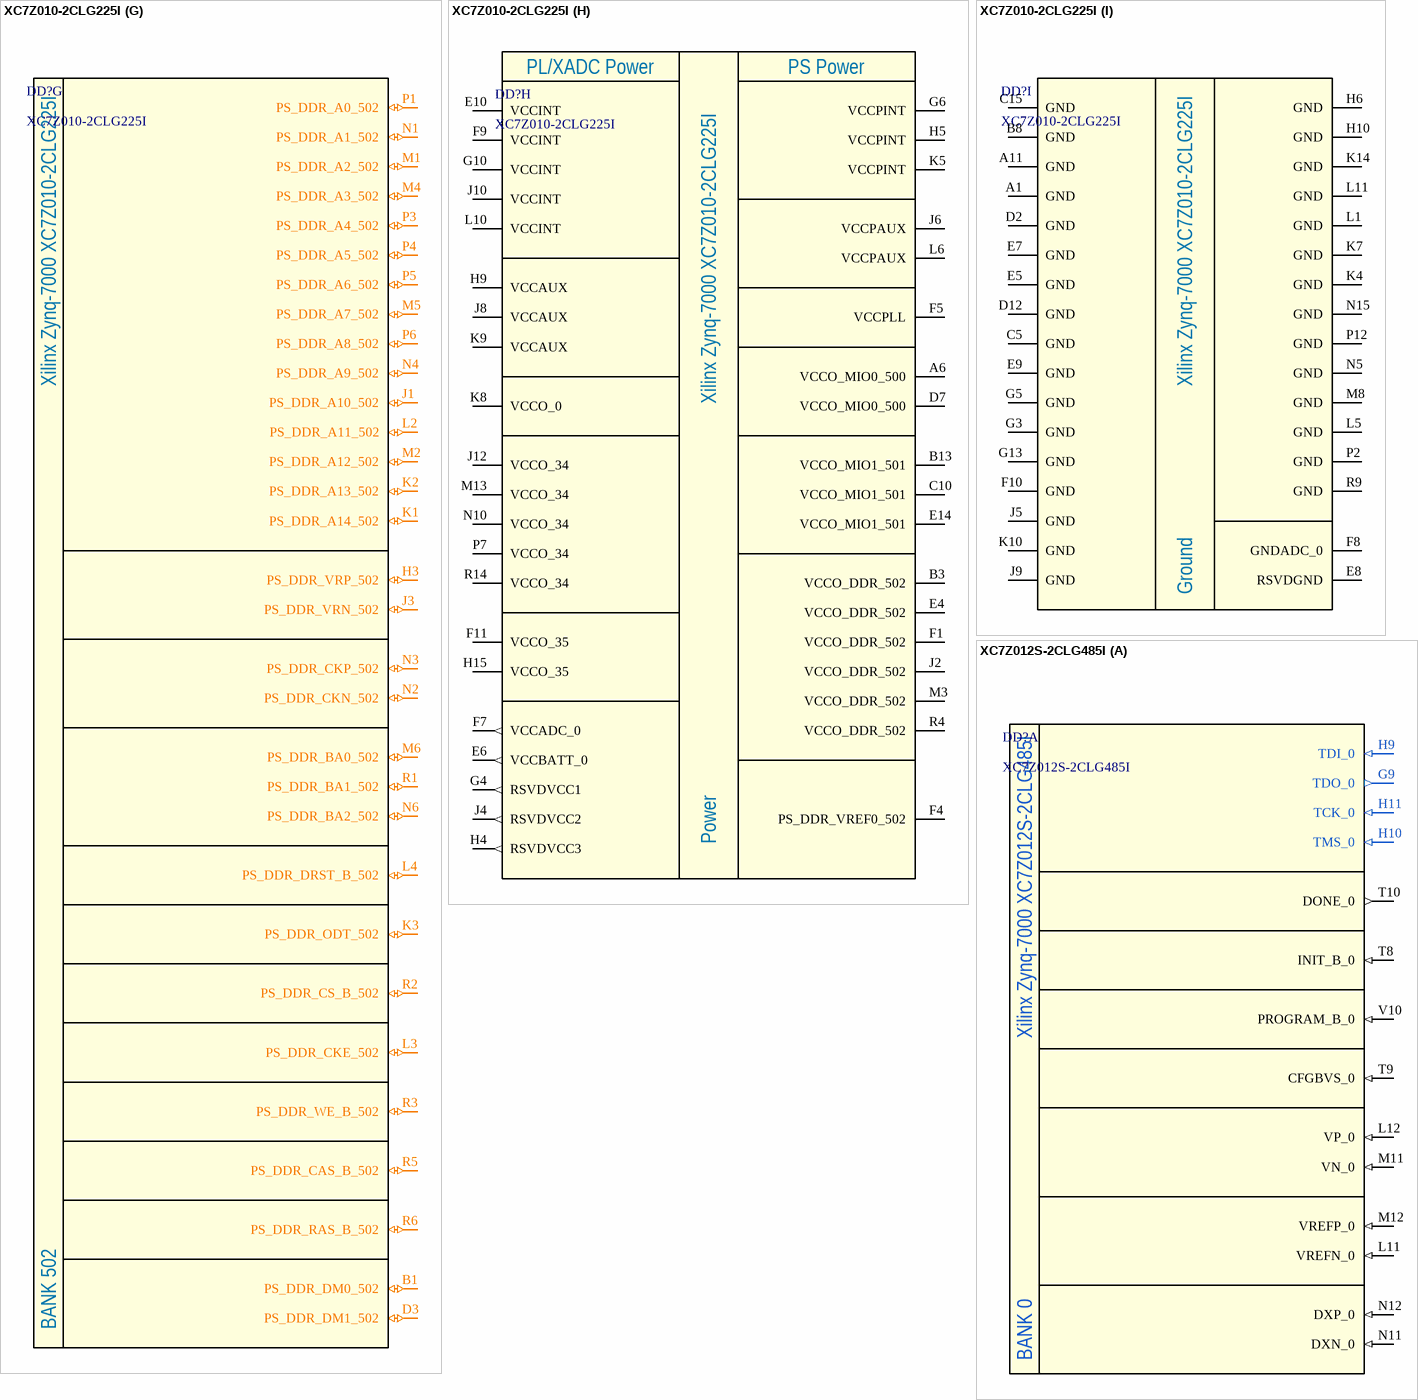
[diagram p20: symbols XC7Z010-2CLG225I to XC7Z012S-2CLG485I]

## XC7Z010-2CLG225I
designator DD?
Zynq-7000 Series SoC, Speed Grade 2, Industrial Grade; Manufacturer: Xilinx; Speed Grade: -2; PackageReference: FBG225; Part Number: XC7Z010-2CLG225I
footprint CLG225 (CLG225, 225-Leads, Body 15.00x15.00mmx1.50mm, Pitch 0.80mm)
part A pins: D5 INIT_B_0 (in), F6 CFGBVS_0 (in), G7 VP_0 (in), G8 VREFN_0 (in), G9 TCK_0 (in), H7 VREFP_0 (in), H8 VN_0 (in), J7 DXP_0 (in), K6 PROGRAM_B_0 (in), L7 TDI_0 (in), L8 TDO_0 (out), L9 TMS_0 (in), M7 DONE_0 (out)
part B pins: G11 IO_L1P_T0_34 (io), G12 IO_L2P_T0_34 (io), G14 IO_L3P_T0_DQS_PUDC_B_34 (io), H11 IO_L6P_T0_34 (io), H12 IO_L1N_T0_34 (io), H13 IO_L2N_T0_34 (io), H14 IO_L3N_T0_DQS_34 (io), J11 IO_L6N_T0_VREF_34 (io), J13 IO_L5P_T0_34 (io), J14 IO_L5N_T0_34 (io), J15 IO_L4P_T0_34 (io), K11 IO_L11P_T1_SRCC_34 (io), K12 IO_L11N_T1_SRCC_34 (io), K13 IO_L10P_T1_34 (io), K15 IO_L4N_T0_34 (io), L12 IO_L12P_T1_MRCC_34 (io), L13 IO_L10N_T1_34 (io), L14 IO_L9P_T1_DQS_34 (io), L15 IO_L8P_T1_34 (io), M9 IO_L19P_T3_34 (io), M10 IO_L21P_T3_DQS_34 (io), M11 IO_L21N_T3_DQS_34 (io), M12 IO_L12N_T1_MRCC_34 (io), M14 IO_L9N_T1_DQS_34 (io), M15 IO_L8N_T1_34 (io), N7 IO_L22P_T3_34 (io), N8 IO_L22N_T3_34 (io), N9 IO_L19N_T3_VREF_34 (io), N11 IO_L13P_T2_MRCC_34 (io), N12 IO_L13N_T2_MRCC_34 (io), N13 IO_L7P_T1_34 (io), N14 IO_L7N_T1_34 (io), P8 IO_L23P_T3_34 (io), P9 IO_L23N_T3_34 (io), P10 IO_L24P_T3_34 (io), P11 IO_L16P_T2_34 (io), P13 IO_L18P_T2_34 (io), P14 IO_L18N_T2_34 (io), P15 IO_L15P_T2_DQS_34 (io), R7 IO_L20P_T3_34 (io), R8 IO_L20N_T3_34 (io), R10 IO_L24N_T3_34 (io), R11 IO_L16N_T2_34 (io), R12 IO_L17P_T2_34 (io), R13 IO_L17N_T2_34 (io), R15 IO_L15N_T2_DQS_34 (io)
part C pins: E11 IO_L2P_T0_AD8P_35 (io), E12 IO_L2N_T0_AD8N_35 (io), E13 IO_L1N_T0_AD0N_35 (io), F12 IO_L1P_T0_AD0P_35 (io), F13 IO_L3P_T0_DQS_AD1P_35 (io), F14 IO_L3N_T0_DQS_AD1N_35 (io), F15 IO_L5N_T0_AD9N_35 (io), G15 IO_L5P_T0_AD9P_35 (io)
part D pins: A5 PS_MIO1_500 (io), A7 PS_MIO3_500 (io), A8 PS_MIO2_500 (io), A9 PS_MIO5_500 (io), A10 PS_MIO6_500 (io), B5 PS_MIO9_500 (io), B6 PS_MIO8_500 (io), B7 PS_MIO12_500 (io), B9 PS_MIO14_500 (io), B10 PS_MIO11_500 (io), C6 PS_MIO13_500 (io), C7 PS_CLK_500 (io), C8 PS_MIO4_500 (io), C9 PS_POR_B_500 (io), D6 PS_MIO10_500 (io), D8 PS_MIO0_500 (io), D9 PS_MIO7_500 (io), D10 PS_MIO15_500 (io)
part E pins: A12 PS_MIO52_501 (io), A13 PS_MIO38_501 (io), A14 PS_MIO35_501 (io), A15 PS_MIO28_501 (io), B11 PS_SRST_B_501 (io), B12 PS_MIO48_501 (io), B14 PS_MIO36_501 (io), B15 PS_MIO30_501 (io), C11 PS_MIO33_501 (io), C12 PS_MIO31_501 (io), C13 PS_MIO53_501 (io), C14 PS_MIO37_501 (io), D11 PS_MIO29_501 (io), D13 PS_MIO49_501 (io), D14 PS_MIO39_501 (io), D15 PS_MIO34_501 (io), E15 PS_MIO32_501 (io)
part F pins: A2 PS_DDR_DQ1_502 (io), A3 PS_DDR_DQ7_502 (io), A4 PS_DDR_DQ5_502 (io), B2 PS_DDR_DQS_N0_502 (io), B4 PS_DDR_DQ4_502 (io), C1 PS_DDR_DQ3_502 (io), C2 PS_DDR_DQS_P0_502 (io), C3 PS_DDR_DQ6_502 (io), C4 PS_DDR_DQ2_502 (io), D1 PS_DDR_DQ9_502 (io), D4 PS_DDR_DQ0_502 (io), E1 PS_DDR_DQ8_502 (io), E2 PS_DDR_DQ10_502 (io), E3 PS_DDR_DQ11_502 (io), F2 PS_DDR_DQS_N1_502 (io), F3 PS_DDR_DQ12_502 (io), G1 PS_DDR_DQ13_502 (io), G2 PS_DDR_DQS_P1_502 (io), H1 PS_DDR_DQ14_502 (io), H2 PS_DDR_DQ15_502 (io)
part G pins: B1 PS_DDR_DM0_502 (io), D3 PS_DDR_DM1_502 (io), H3 PS_DDR_VRP_502 (io), J1 PS_DDR_A10_502 (io), J3 PS_DDR_VRN_502 (io), K1 PS_DDR_A14_502 (io), K2 PS_DDR_A13_502 (io), K3 PS_DDR_ODT_502 (io), L2 PS_DDR_A11_502 (io), L3 PS_DDR_CKE_502 (io), L4 PS_DDR_DRST_B_502 (io), M1 PS_DDR_A2_502 (io), M2 PS_DDR_A12_502 (io), M4 PS_DDR_A3_502 (io), M5 PS_DDR_A7_502 (io), M6 PS_DDR_BA0_502 (io), N1 PS_DDR_A1_502 (io), N2 PS_DDR_CKN_502 (io), N3 PS_DDR_CKP_502 (io), N4 PS_DDR_A9_502 (io), N6 PS_DDR_BA2_502 (io), P1 PS_DDR_A0_502 (io), P3 PS_DDR_A4_502 (io), P4 PS_DDR_A5_502 (io), P5 PS_DDR_A6_502 (io), P6 PS_DDR_A8_502 (io), R1 PS_DDR_BA1_502 (io), R2 PS_DDR_CS_B_502 (io), R3 PS_DDR_WE_B_502 (io), R5 PS_DDR_CAS_B_502 (io), R6 PS_DDR_RAS_B_502 (io)
part H pins: A6 VCCO_MIO0_500 (power), B3 VCCO_DDR_502 (power), B13 VCCO_MIO1_501 (power), C10 VCCO_MIO1_501 (power), D7 VCCO_MIO0_500 (power), E4 VCCO_DDR_502 (power), E6 VCCBATT_0 (out), E10 VCCINT (power), E14 VCCO_MIO1_501 (power), F1 VCCO_DDR_502 (power), F4 PS_DDR_VREF0_502 (power), F5 VCCPLL (power), F7 VCCADC_0 (out), F9 VCCINT (power), F11 VCCO_35 (power), G4 RSVDVCC1 (out), G6 VCCPINT (power), G10 VCCINT (power), H4 RSVDVCC3 (out), H5 VCCPINT (power), H9 VCCAUX (power), H15 VCCO_35 (power), J2 VCCO_DDR_502 (power), J4 RSVDVCC2 (out), J6 VCCPAUX (power), J8 VCCAUX (power), J10 VCCINT (power), J12 VCCO_34 (power), K5 VCCPINT (power), K8 VCCO_0 (power), K9 VCCAUX (power), L6 VCCPAUX (power), L10 VCCINT (power), M3 VCCO_DDR_502 (power), M13 VCCO_34 (power), N10 VCCO_34 (power), P7 VCCO_34 (power), R4 VCCO_DDR_502 (power), R14 VCCO_34 (power)
part I pins: A1 GND (power), A11 GND (power), B8 GND (power), C5 GND (power), C15 GND (power), D2 GND (power), D12 GND (power), E5 GND (power), E7 GND (power), E8 RSVDGND (power), E9 GND (power), F8 GNDADC_0 (power), F10 GND (power), G3 GND (power), G5 GND (power), G13 GND (power), H6 GND (power), H10 GND (power), J5 GND (power), J9 GND (power), K4 GND (power), K7 GND (power), K10 GND (power), K14 GND (power), L1 GND (power), L5 GND (power), L11 GND (power), M8 GND (power), N5 GND (power), N15 GND (power), P2 GND (power), P12 GND (power), R9 GND (power)
part A text: Xilinx Zynq-7000 XC7Z010-2CLG225I; BANK 0
part B text: Xilinx Zynq-7000 XC7Z010-2CLG225I; BANK 34
part C text: Xilinx Zynq-7000 XC7Z010-2CLG225I; BANK 35
part D text: Xilinx Zynq-7000 XC7Z010-2CLG225I; BANK 500
part E text: Xilinx Zynq-7000 XC7Z010-2CLG225I; BANK 501
part F text: Xilinx Zynq-7000 XC7Z010-2CLG225I; BANK 502
part G text: Xilinx Zynq-7000 XC7Z010-2CLG225I; BANK 502
part H text: PL/XADC Power; PS Power; Xilinx Zynq-7000 XC7Z010-2CLG225I; Power
part I text: Xilinx Zynq-7000 XC7Z010-2CLG225I; Ground

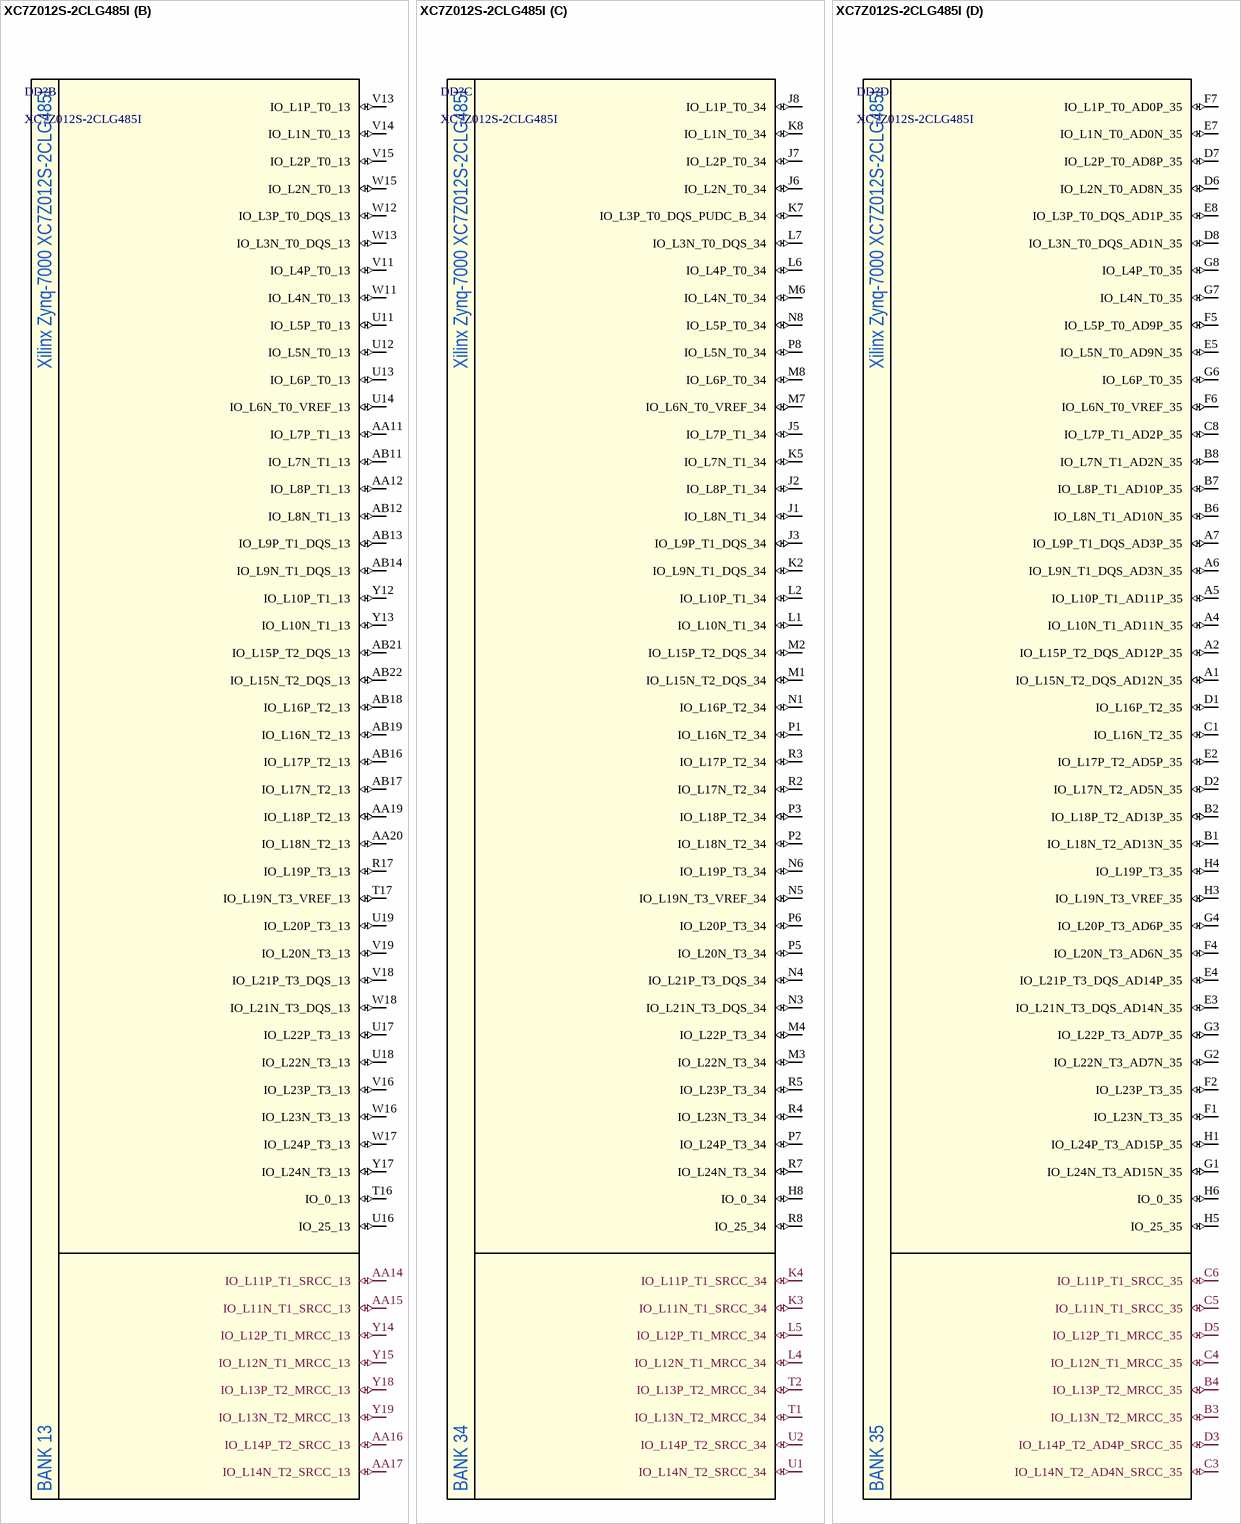
[diagram p21: symbol XC7Z012S-2CLG485I]

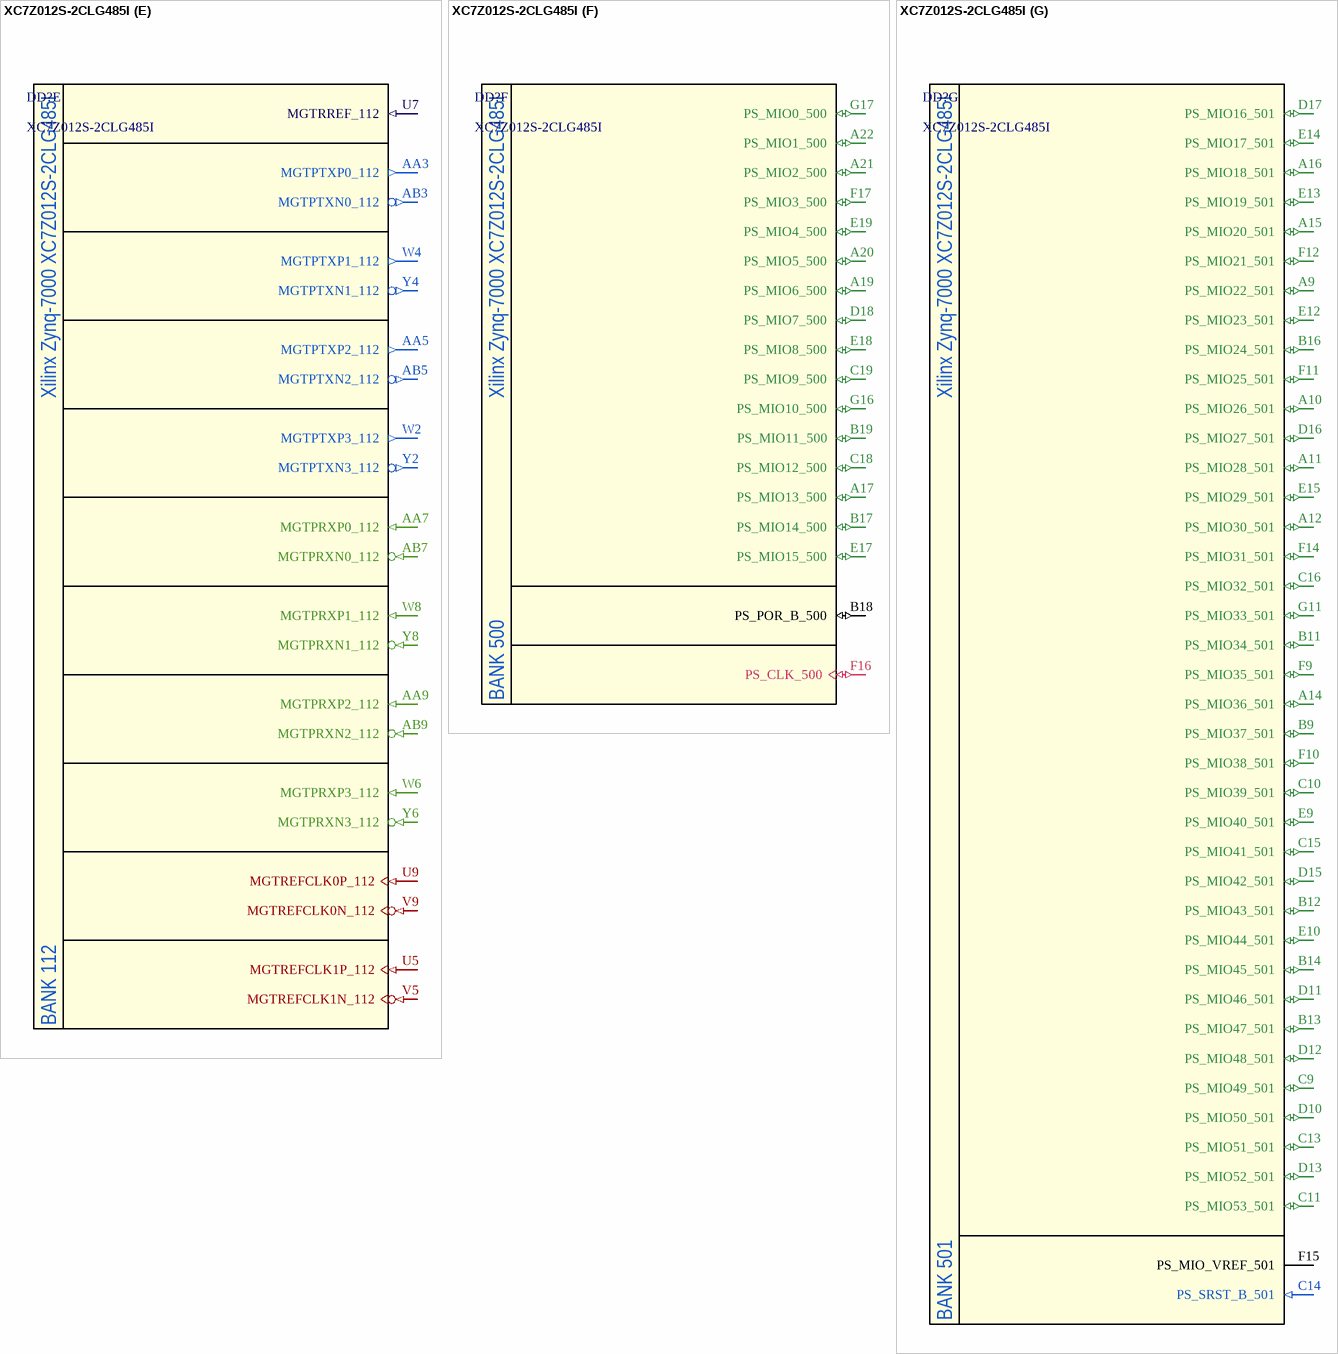
[diagram p22: symbol XC7Z012S-2CLG485I]

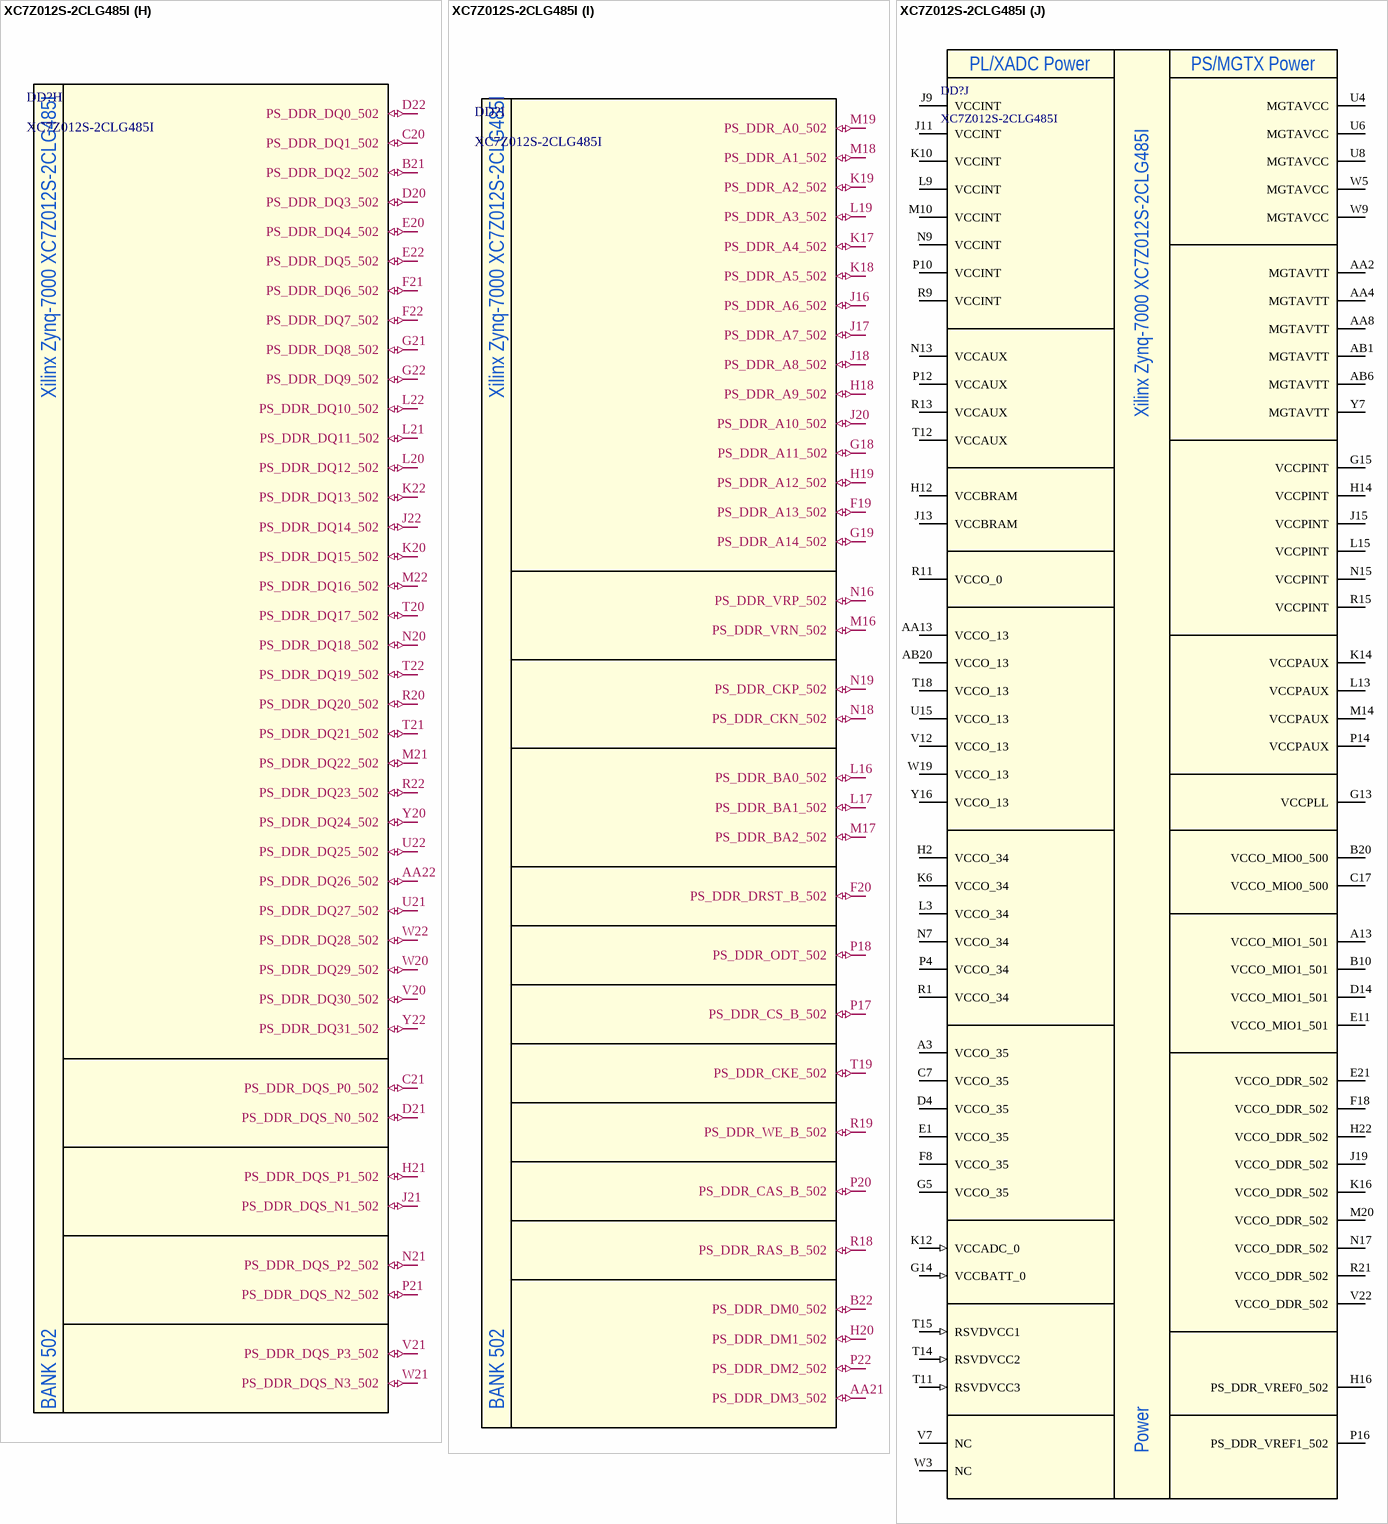
[diagram p23: symbol XC7Z012S-2CLG485I]

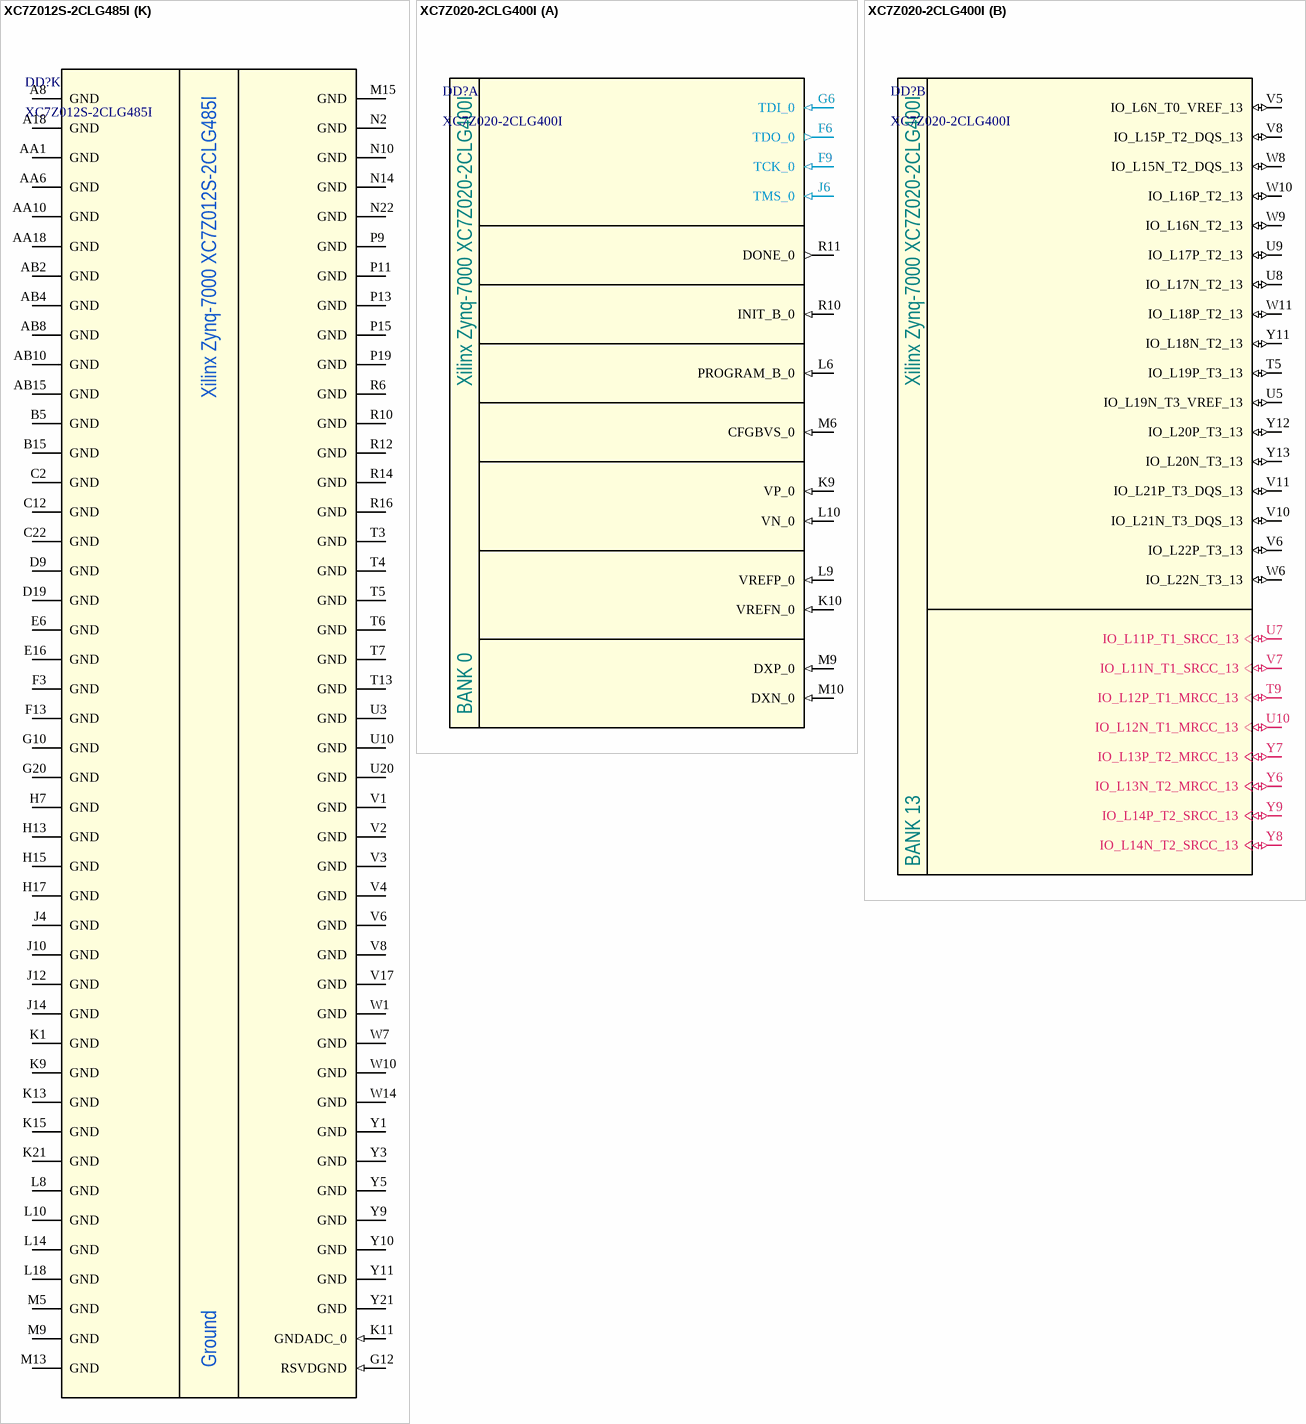
[diagram p24: symbols XC7Z012S-2CLG485I to XC7Z020-2CLG400I]

## XC7Z012S-2CLG485I
designator DD?
Zynq-7000 Series SoC, Speed Grade 2, Industrial Grade; Manufacturer: Xilinx; Speed Grade: -2; PackageReference: CLG485; Part Number: XC7Z012S-2CLG485I
footprint CLG485 (CLG484/CLG485 484-Leads, Body 19.00x19.00mmx1.60mm, Pitch 0.80mm)
part A pins: G9 TDO_0 (out), H9 TDI_0 (in), H10 TMS_0 (in), H11 TCK_0 (in), L11 VREFN_0 (in), L12 VP_0 (in), M11 VN_0 (in), M12 VREFP_0 (in), N11 DXN_0 (in), N12 DXP_0 (in), T8 INIT_B_0 (in), T9 CFGBVS_0 (in), T10 DONE_0 (out), V10 PROGRAM_B_0 (in)
part B pins: AA11 IO_L7P_T1_13 (io), AA12 IO_L8P_T1_13 (io), AA14 IO_L11P_T1_SRCC_13 (io), AA15 IO_L11N_T1_SRCC_13 (io), AA16 IO_L14P_T2_SRCC_13 (io), AA17 IO_L14N_T2_SRCC_13 (io), AA19 IO_L18P_T2_13 (io), AA20 IO_L18N_T2_13 (io), AB11 IO_L7N_T1_13 (io), AB12 IO_L8N_T1_13 (io), AB13 IO_L9P_T1_DQS_13 (io), AB14 IO_L9N_T1_DQS_13 (io), AB16 IO_L17P_T2_13 (io), AB17 IO_L17N_T2_13 (io), AB18 IO_L16P_T2_13 (io), AB19 IO_L16N_T2_13 (io), AB21 IO_L15P_T2_DQS_13 (io), AB22 IO_L15N_T2_DQS_13 (io), R17 IO_L19P_T3_13 (io), T16 IO_0_13 (io), T17 IO_L19N_T3_VREF_13 (io), U11 IO_L5P_T0_13 (io), U12 IO_L5N_T0_13 (io), U13 IO_L6P_T0_13 (io), U14 IO_L6N_T0_VREF_13 (io), U16 IO_25_13 (io), U17 IO_L22P_T3_13 (io), U18 IO_L22N_T3_13 (io), U19 IO_L20P_T3_13 (io), V11 IO_L4P_T0_13 (io), V13 IO_L1P_T0_13 (io), V14 IO_L1N_T0_13 (io), V15 IO_L2P_T0_13 (io), V16 IO_L23P_T3_13 (io), V18 IO_L21P_T3_DQS_13 (io), V19 IO_L20N_T3_13 (io), W11 IO_L4N_T0_13 (io), W12 IO_L3P_T0_DQS_13 (io), W13 IO_L3N_T0_DQS_13 (io), W15 IO_L2N_T0_13 (io), W16 IO_L23N_T3_13 (io), W17 IO_L24P_T3_13 (io), W18 IO_L21N_T3_DQS_13 (io), Y12 IO_L10P_T1_13 (io), Y13 IO_L10N_T1_13 (io), Y14 IO_L12P_T1_MRCC_13 (io), Y15 IO_L12N_T1_MRCC_13 (io), Y17 IO_L24N_T3_13 (io), Y18 IO_L13P_T2_MRCC_13 (io), Y19 IO_L13N_T2_MRCC_13 (io)
part C pins: H8 IO_0_34 (io), J1 IO_L8N_T1_34 (io), J2 IO_L8P_T1_34 (io), J3 IO_L9P_T1_DQS_34 (io), J5 IO_L7P_T1_34 (io), J6 IO_L2N_T0_34 (io), J7 IO_L2P_T0_34 (io), J8 IO_L1P_T0_34 (io), K2 IO_L9N_T1_DQS_34 (io), K3 IO_L11N_T1_SRCC_34 (io), K4 IO_L11P_T1_SRCC_34 (io), K5 IO_L7N_T1_34 (io), K7 IO_L3P_T0_DQS_PUDC_B_34 (io), K8 IO_L1N_T0_34 (io), L1 IO_L10N_T1_34 (io), L2 IO_L10P_T1_34 (io), L4 IO_L12N_T1_MRCC_34 (io), L5 IO_L12P_T1_MRCC_34 (io), L6 IO_L4P_T0_34 (io), L7 IO_L3N_T0_DQS_34 (io), M1 IO_L15N_T2_DQS_34 (io), M2 IO_L15P_T2_DQS_34 (io), M3 IO_L22N_T3_34 (io), M4 IO_L22P_T3_34 (io), M6 IO_L4N_T0_34 (io), M7 IO_L6N_T0_VREF_34 (io), M8 IO_L6P_T0_34 (io), N1 IO_L16P_T2_34 (io), N3 IO_L21N_T3_DQS_34 (io), N4 IO_L21P_T3_DQS_34 (io), N5 IO_L19N_T3_VREF_34 (io), N6 IO_L19P_T3_34 (io), N8 IO_L5P_T0_34 (io), P1 IO_L16N_T2_34 (io), P2 IO_L18N_T2_34 (io), P3 IO_L18P_T2_34 (io), P5 IO_L20N_T3_34 (io), P6 IO_L20P_T3_34 (io), P7 IO_L24P_T3_34 (io), P8 IO_L5N_T0_34 (io), R2 IO_L17N_T2_34 (io), R3 IO_L17P_T2_34 (io), R4 IO_L23N_T3_34 (io), R5 IO_L23P_T3_34 (io), R7 IO_L24N_T3_34 (io), R8 IO_25_34 (io), T1 IO_L13N_T2_MRCC_34 (io), T2 IO_L13P_T2_MRCC_34 (io), U1 IO_L14N_T2_SRCC_34 (io), U2 IO_L14P_T2_SRCC_34 (io)
part D pins: A1 IO_L15N_T2_DQS_AD12N_35 (io), A2 IO_L15P_T2_DQS_AD12P_35 (io), A4 IO_L10N_T1_AD11N_35 (io), A5 IO_L10P_T1_AD11P_35 (io), A6 IO_L9N_T1_DQS_AD3N_35 (io), A7 IO_L9P_T1_DQS_AD3P_35 (io), B1 IO_L18N_T2_AD13N_35 (io), B2 IO_L18P_T2_AD13P_35 (io), B3 IO_L13N_T2_MRCC_35 (io), B4 IO_L13P_T2_MRCC_35 (io), B6 IO_L8N_T1_AD10N_35 (io), B7 IO_L8P_T1_AD10P_35 (io), B8 IO_L7N_T1_AD2N_35 (io), C1 IO_L16N_T2_35 (io), C3 IO_L14N_T2_AD4N_SRCC_35 (io), C4 IO_L12N_T1_MRCC_35 (io), C5 IO_L11N_T1_SRCC_35 (io), C6 IO_L11P_T1_SRCC_35 (io), C8 IO_L7P_T1_AD2P_35 (io), D1 IO_L16P_T2_35 (io), D2 IO_L17N_T2_AD5N_35 (io), D3 IO_L14P_T2_AD4P_SRCC_35 (io), D5 IO_L12P_T1_MRCC_35 (io), D6 IO_L2N_T0_AD8N_35 (io), D7 IO_L2P_T0_AD8P_35 (io), D8 IO_L3N_T0_DQS_AD1N_35 (io), E2 IO_L17P_T2_AD5P_35 (io), E3 IO_L21N_T3_DQS_AD14N_35 (io), E4 IO_L21P_T3_DQS_AD14P_35 (io), E5 IO_L5N_T0_AD9N_35 (io), E7 IO_L1N_T0_AD0N_35 (io), E8 IO_L3P_T0_DQS_AD1P_35 (io), F1 IO_L23N_T3_35 (io), F2 IO_L23P_T3_35 (io), F4 IO_L20N_T3_AD6N_35 (io), F5 IO_L5P_T0_AD9P_35 (io), F6 IO_L6N_T0_VREF_35 (io), F7 IO_L1P_T0_AD0P_35 (io), G1 IO_L24N_T3_AD15N_35 (io), G2 IO_L22N_T3_AD7N_35 (io), G3 IO_L22P_T3_AD7P_35 (io), G4 IO_L20P_T3_AD6P_35 (io), G6 IO_L6P_T0_35 (io), G7 IO_L4N_T0_35 (io), G8 IO_L4P_T0_35 (io), H1 IO_L24P_T3_AD15P_35 (io), H3 IO_L19N_T3_VREF_35 (io), H4 IO_L19P_T3_35 (io), H5 IO_25_35 (io), H6 IO_0_35 (io)
part E pins: AA3 MGTPTXP0_112 (out), AA5 MGTPTXP2_112 (out), AA7 MGTPRXP0_112 (in), AA9 MGTPRXP2_112 (in), AB3 MGTPTXN0_112 (out), AB5 MGTPTXN2_112 (out), AB7 MGTPRXN0_112 (in), AB9 MGTPRXN2_112 (in), U5 MGTREFCLK1P_112 (in), U7 MGTRREF_112 (in), U9 MGTREFCLK0P_112 (in), V5 MGTREFCLK1N_112 (in), V9 MGTREFCLK0N_112 (in), W2 MGTPTXP3_112 (out), W4 MGTPTXP1_112 (out), W6 MGTPRXP3_112 (in), W8 MGTPRXP1_112 (in), Y2 MGTPTXN3_112 (out), Y4 MGTPTXN1_112 (out), Y6 MGTPRXN3_112 (in), Y8 MGTPRXN1_112 (in)
part F pins: A17 PS_MIO13_500 (io), A19 PS_MIO6_500 (io), A20 PS_MIO5_500 (io), A21 PS_MIO2_500 (io), A22 PS_MIO1_500 (io), B17 PS_MIO14_500 (io), B18 PS_POR_B_500 (io), B19 PS_MIO11_500 (io), C18 PS_MIO12_500 (io), C19 PS_MIO9_500 (io), D18 PS_MIO7_500 (io), E17 PS_MIO15_500 (io), E18 PS_MIO8_500 (io), E19 PS_MIO4_500 (io), F16 PS_CLK_500 (io), F17 PS_MIO3_500 (io), G16 PS_MIO10_500 (io), G17 PS_MIO0_500 (io)
part G pins: A9 PS_MIO22_501 (io), A10 PS_MIO26_501 (io), A11 PS_MIO28_501 (io), A12 PS_MIO30_501 (io), A14 PS_MIO36_501 (io), A15 PS_MIO20_501 (io), A16 PS_MIO18_501 (io), B9 PS_MIO37_501 (io), B11 PS_MIO34_501 (io), B12 PS_MIO43_501 (io), B13 PS_MIO47_501 (io), B14 PS_MIO45_501 (io), B16 PS_MIO24_501 (io), C9 PS_MIO49_501 (io), C10 PS_MIO39_501 (io), C11 PS_MIO53_501 (io), C13 PS_MIO51_501 (io), C14 PS_SRST_B_501 (in), C15 PS_MIO41_501 (io), C16 PS_MIO32_501 (io), D10 PS_MIO50_501 (io), D11 PS_MIO46_501 (io), D12 PS_MIO48_501 (io), D13 PS_MIO52_501 (io), D15 PS_MIO42_501 (io), D16 PS_MIO27_501 (io), D17 PS_MIO16_501 (io), E9 PS_MIO40_501 (io), E10 PS_MIO44_501 (io), E12 PS_MIO23_501 (io), E13 PS_MIO19_501 (io), E14 PS_MIO17_501 (io), E15 PS_MIO29_501 (io), F9 PS_MIO35_501 (io), F10 PS_MIO38_501 (io), F11 PS_MIO25_501 (io), F12 PS_MIO21_501 (io), F14 PS_MIO31_501 (io), F15 PS_MIO_VREF_501, G11 PS_MIO33_501 (io)
part H pins: AA22 PS_DDR_DQ26_502 (io), B21 PS_DDR_DQ2_502 (io), C20 PS_DDR_DQ1_502 (io), C21 PS_DDR_DQS_P0_502 (io), D20 PS_DDR_DQ3_502 (io), D21 PS_DDR_DQS_N0_502 (io), D22 PS_DDR_DQ0_502 (io), E20 PS_DDR_DQ4_502 (io), E22 PS_DDR_DQ5_502 (io), F21 PS_DDR_DQ6_502 (io), F22 PS_DDR_DQ7_502 (io), G21 PS_DDR_DQ8_502 (io), G22 PS_DDR_DQ9_502 (io), H21 PS_DDR_DQS_P1_502 (io), J21 PS_DDR_DQS_N1_502 (io), J22 PS_DDR_DQ14_502 (io), K20 PS_DDR_DQ15_502 (io), K22 PS_DDR_DQ13_502 (io), L20 PS_DDR_DQ12_502 (io), L21 PS_DDR_DQ11_502 (io), L22 PS_DDR_DQ10_502 (io), M21 PS_DDR_DQ22_502 (io), M22 PS_DDR_DQ16_502 (io), N20 PS_DDR_DQ18_502 (io), N21 PS_DDR_DQS_P2_502 (io), P21 PS_DDR_DQS_N2_502 (io), R20 PS_DDR_DQ20_502 (io), R22 PS_DDR_DQ23_502 (io), T20 PS_DDR_DQ17_502 (io), T21 PS_DDR_DQ21_502 (io), T22 PS_DDR_DQ19_502 (io), U21 PS_DDR_DQ27_502 (io), U22 PS_DDR_DQ25_502 (io), V20 PS_DDR_DQ30_502 (io), V21 PS_DDR_DQS_P3_502 (io), W20 PS_DDR_DQ29_502 (io), W21 PS_DDR_DQS_N3_502 (io), W22 PS_DDR_DQ28_502 (io), Y20 PS_DDR_DQ24_502 (io), Y22 PS_DDR_DQ31_502 (io)
part I pins: AA21 PS_DDR_DM3_502 (io), B22 PS_DDR_DM0_502 (io), F19 PS_DDR_A13_502 (io), F20 PS_DDR_DRST_B_502 (io), G18 PS_DDR_A11_502 (io), G19 PS_DDR_A14_502 (io), H18 PS_DDR_A9_502 (io), H19 PS_DDR_A12_502 (io), H20 PS_DDR_DM1_502 (io), J16 PS_DDR_A6_502 (io), J17 PS_DDR_A7_502 (io), J18 PS_DDR_A8_502 (io), J20 PS_DDR_A10_502 (io), K17 PS_DDR_A4_502 (io), K18 PS_DDR_A5_502 (io), K19 PS_DDR_A2_502 (io), L16 PS_DDR_BA0_502 (io), L17 PS_DDR_BA1_502 (io), L19 PS_DDR_A3_502 (io), M16 PS_DDR_VRN_502 (io), M17 PS_DDR_BA2_502 (io), M18 PS_DDR_A1_502 (io), M19 PS_DDR_A0_502 (io), N16 PS_DDR_VRP_502 (io), N18 PS_DDR_CKN_502 (io), N19 PS_DDR_CKP_502 (io), P17 PS_DDR_CS_B_502 (io), P18 PS_DDR_ODT_502 (io), P20 PS_DDR_CAS_B_502 (io), P22 PS_DDR_DM2_502 (io), R18 PS_DDR_RAS_B_502 (io), R19 PS_DDR_WE_B_502 (io), T19 PS_DDR_CKE_502 (io)
part J pins: A3 VCCO_35 (power), A13 VCCO_MIO1_501 (power), AA2 MGTAVTT (power), AA4 MGTAVTT (power), AA8 MGTAVTT (power), AA13 VCCO_13 (power), AB1 MGTAVTT (power), AB6 MGTAVTT (power), AB20 VCCO_13 (power), B10 VCCO_MIO1_501 (power), B20 VCCO_MIO0_500 (power), C7 VCCO_35 (power), C17 VCCO_MIO0_500 (power), D4 VCCO_35 (power), D14 VCCO_MIO1_501 (power), E1 VCCO_35 (power), E11 VCCO_MIO1_501 (power), E21 VCCO_DDR_502 (power), F8 VCCO_35 (power), F18 VCCO_DDR_502 (power), G5 VCCO_35 (power), G13 VCCPLL (power), G14 VCCBATT_0 (in), G15 VCCPINT (power), H2 VCCO_34 (power), H12 VCCBRAM (power), H14 VCCPINT (power), H16 PS_DDR_VREF0_502 (power), H22 VCCO_DDR_502 (power), J9 VCCINT (power), J11 VCCINT (power), J13 VCCBRAM (power), J15 VCCPINT (power), J19 VCCO_DDR_502 (power), K6 VCCO_34 (power), K10 VCCINT (power), K12 VCCADC_0 (in), K14 VCCPAUX (power), K16 VCCO_DDR_502 (power), L3 VCCO_34 (power), L9 VCCINT (power), L13 VCCPAUX (power), L15 VCCPINT (power), M10 VCCINT (power), M14 VCCPAUX (power), M20 VCCO_DDR_502 (power), N7 VCCO_34 (power), N9 VCCINT (power), N13 VCCAUX (power), N15 VCCPINT (power), N17 VCCO_DDR_502 (power), P4 VCCO_34 (power), P10 VCCINT (power), P12 VCCAUX (power), P14 VCCPAUX (power), P16 PS_DDR_VREF1_502 (power), R1 VCCO_34 (power), R9 VCCINT (power), R11 VCCO_0 (power), R13 VCCAUX (power), R15 VCCPINT (power), R21 VCCO_DDR_502 (power), T11 RSVDVCC3 (in), T12 VCCAUX (power), T14 RSVDVCC2 (in), T15 RSVDVCC1 (in), T18 VCCO_13 (power), U4 MGTAVCC (power), U6 MGTAVCC (power), U8 MGTAVCC (power), U15 VCCO_13 (power), V7 NC (hiz), V12 VCCO_13 (power), V22 VCCO_DDR_502 (power), W3 NC (hiz), W5 MGTAVCC (power), W9 MGTAVCC (power), W19 VCCO_13 (power), Y7 MGTAVTT (power), Y16 VCCO_13 (power)
part K pins: A8 GND (power), A18 GND (power), AA1 GND (power), AA6 GND (power), AA10 GND (power), AA18 GND (power), AB2 GND (power), AB4 GND (power), AB8 GND (power), AB10 GND (power), AB15 GND (power), B5 GND (power), B15 GND (power), C2 GND (power), C12 GND (power), C22 GND (power), D9 GND (power), D19 GND (power), E6 GND (power), E16 GND (power), F3 GND (power), F13 GND (power), G10 GND (power), G12 RSVDGND (in), G20 GND (power), H7 GND (power), H13 GND (power), H15 GND (power), H17 GND (power), J4 GND (power), J10 GND (power), J12 GND (power), J14 GND (power), K1 GND (power), K9 GND (power), K11 GNDADC_0 (in), K13 GND (power), K15 GND (power), K21 GND (power), L8 GND (power), L10 GND (power), L14 GND (power), L18 GND (power), M5 GND (power), M9 GND (power), M13 GND (power), M15 GND (power), N2 GND (power), N10 GND (power), N14 GND (power), N22 GND (power), P9 GND (power), P11 GND (power), P13 GND (power), P15 GND (power), P19 GND (power), R6 GND (power), R10 GND (power), R12 GND (power), R14 GND (power), R16 GND (power), T3 GND (power), T4 GND (power), T5 GND (power), T6 GND (power), T7 GND (power), T13 GND (power), U3 GND (power), U10 GND (power), U20 GND (power), V1 GND (power), V2 GND (power), V3 GND (power), V4 GND (power), V6 GND (power), V8 GND (power), V17 GND (power), W1 GND (power), W7 GND (power), W10 GND (power), W14 GND (power), Y1 GND (power), Y3 GND (power), Y5 GND (power), Y9 GND (power), Y10 GND (power), Y11 GND (power), Y21 GND (power)
part A text: Xilinx Zynq-7000 XC7Z012S-2CLG485I; BANK 0
part B text: Xilinx Zynq-7000 XC7Z012S-2CLG485I; BANK 13
part C text: Xilinx Zynq-7000 XC7Z012S-2CLG485I; BANK 34
part D text: Xilinx Zynq-7000 XC7Z012S-2CLG485I; BANK 35
part E text: Xilinx Zynq-7000 XC7Z012S-2CLG485I; BANK 112
part F text: Xilinx Zynq-7000 XC7Z012S-2CLG485I; BANK 500
part G text: Xilinx Zynq-7000 XC7Z012S-2CLG485I; BANK 501
part H text: Xilinx Zynq-7000 XC7Z012S-2CLG485I; BANK 502
part I text: Xilinx Zynq-7000 XC7Z012S-2CLG485I; BANK 502
part J text: PL/XADC Power; PS/MGTX Power; Xilinx Zynq-7000 XC7Z012S-2CLG485I; Power
part K text: Xilinx Zynq-7000 XC7Z012S-2CLG485I; Ground

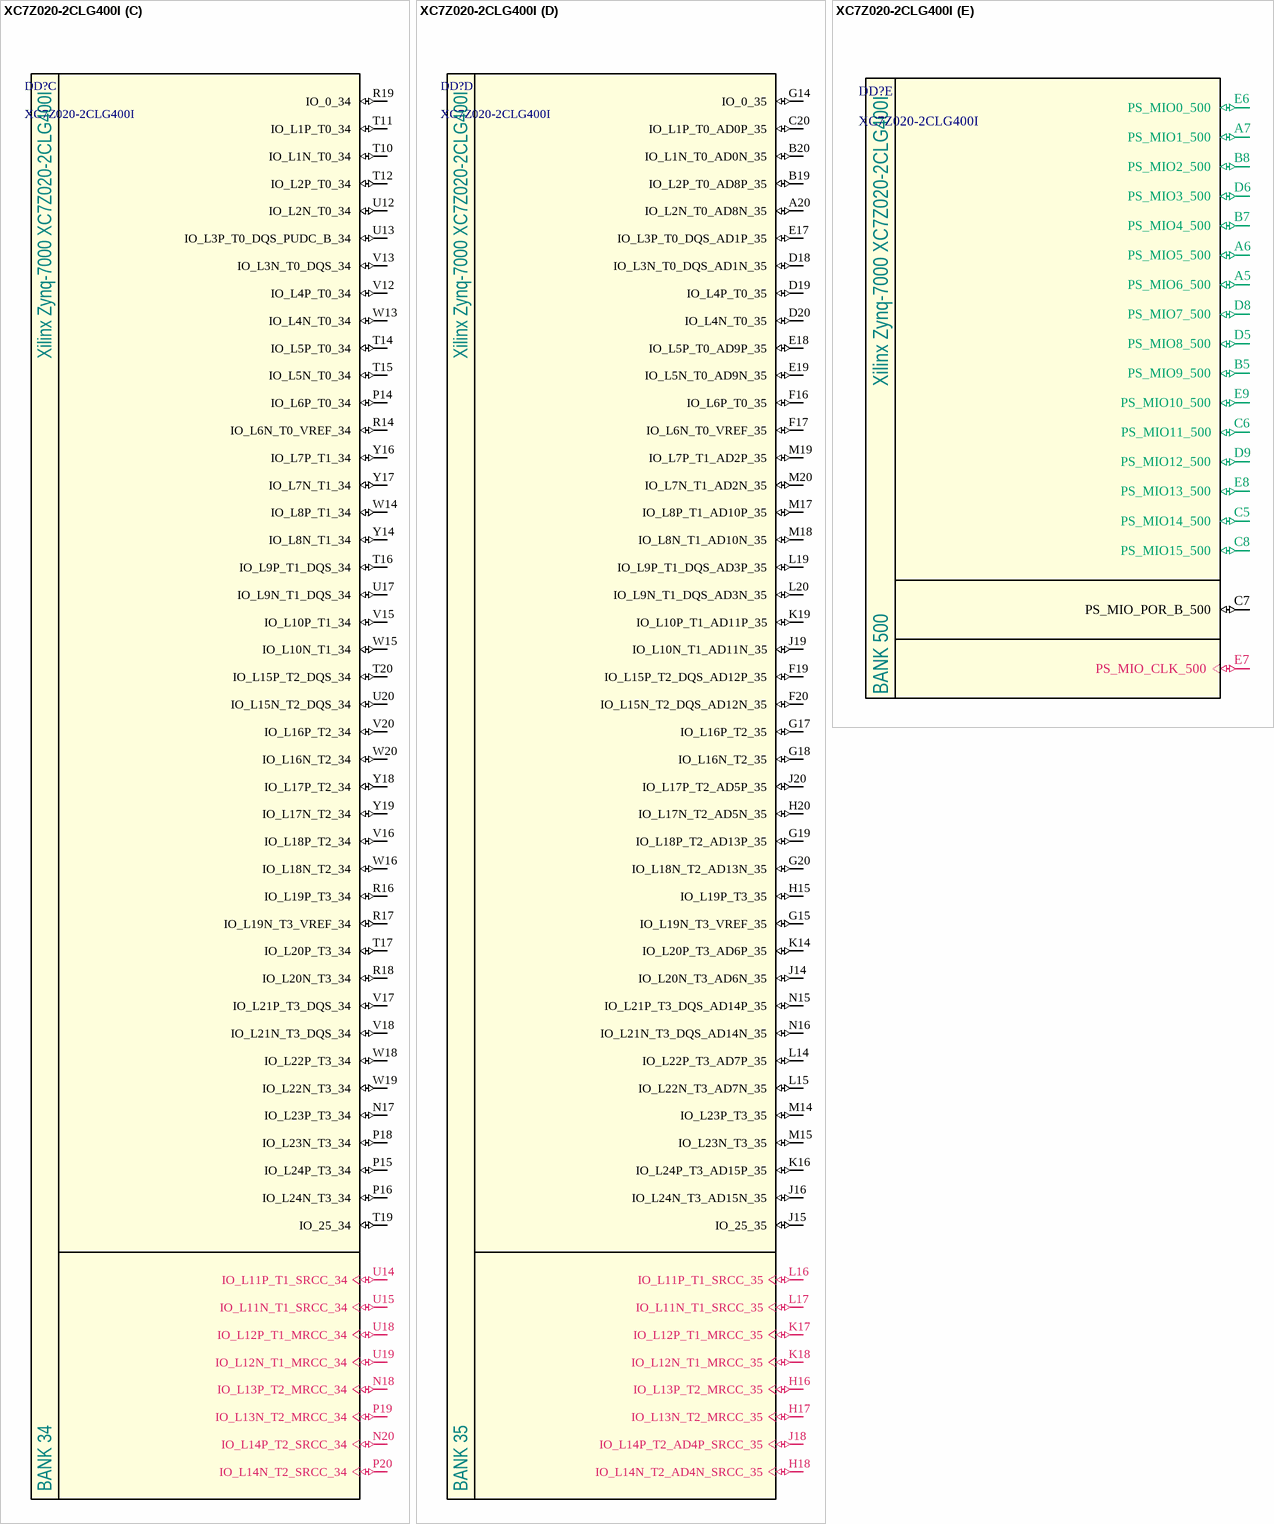
[diagram p25: symbol XC7Z020-2CLG400I]

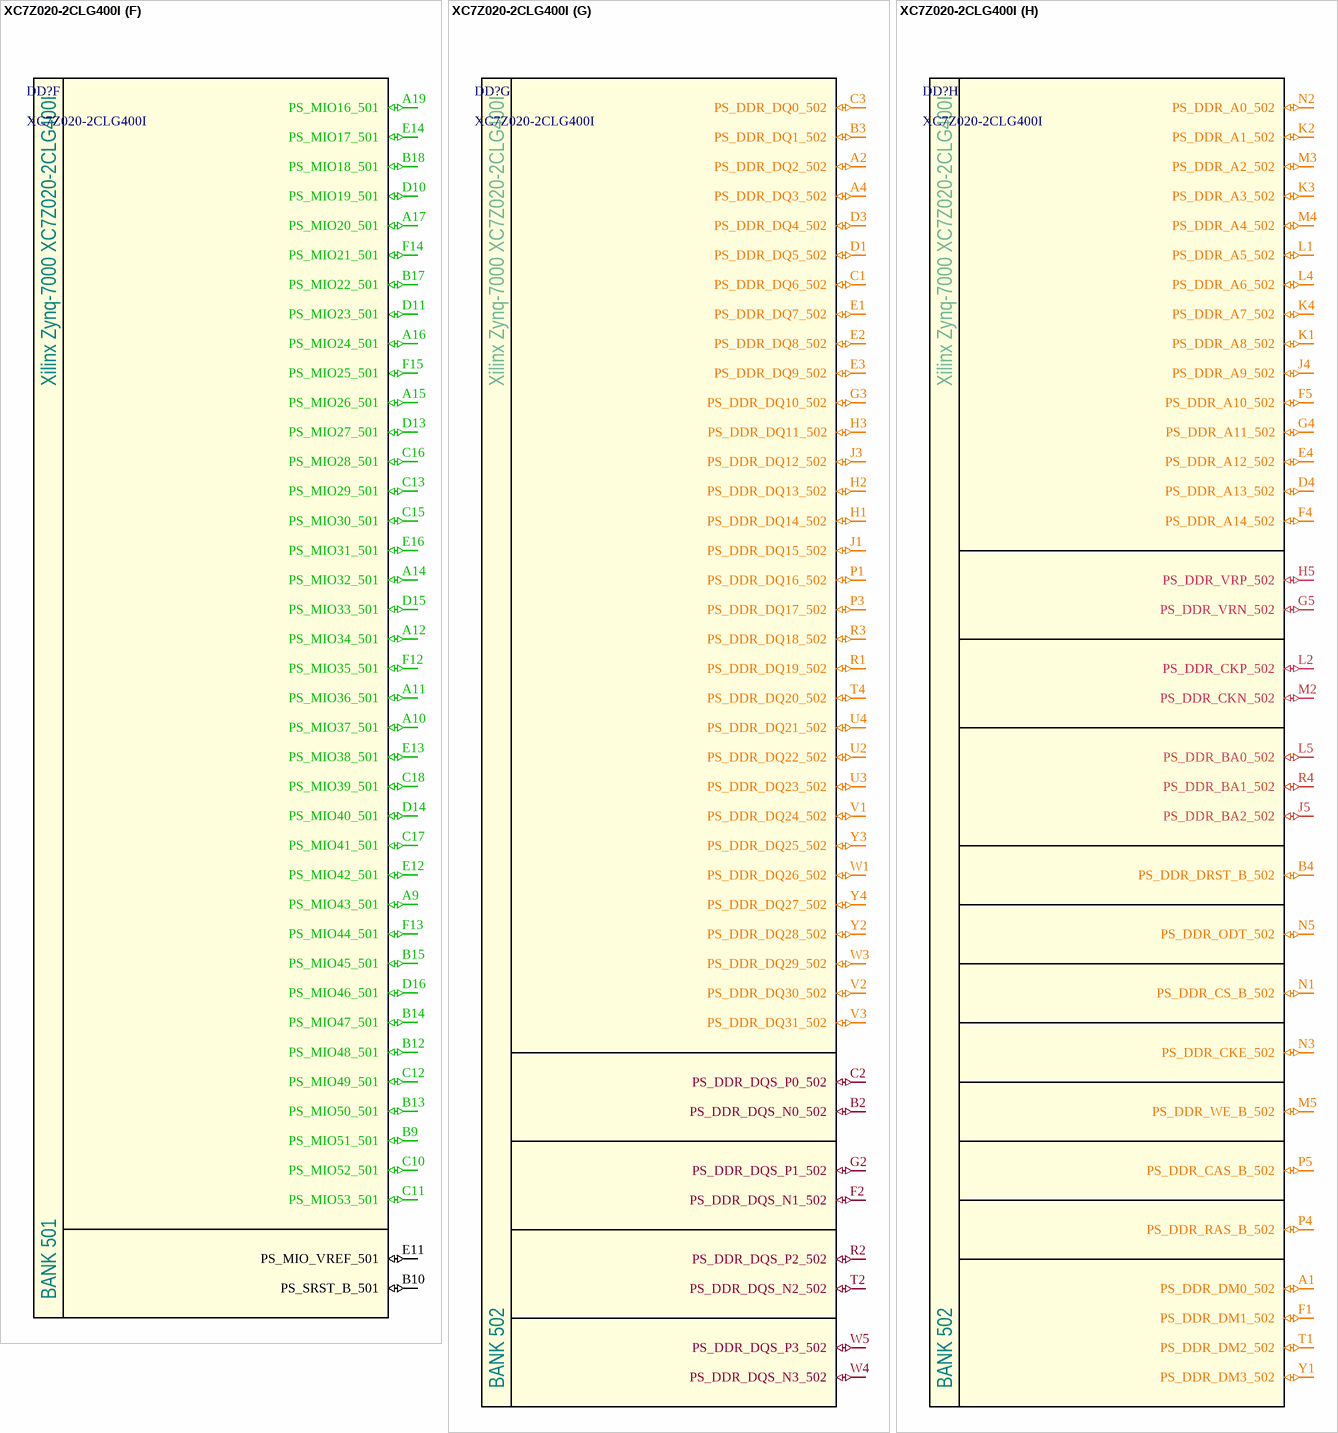
[diagram p26: symbol XC7Z020-2CLG400I]

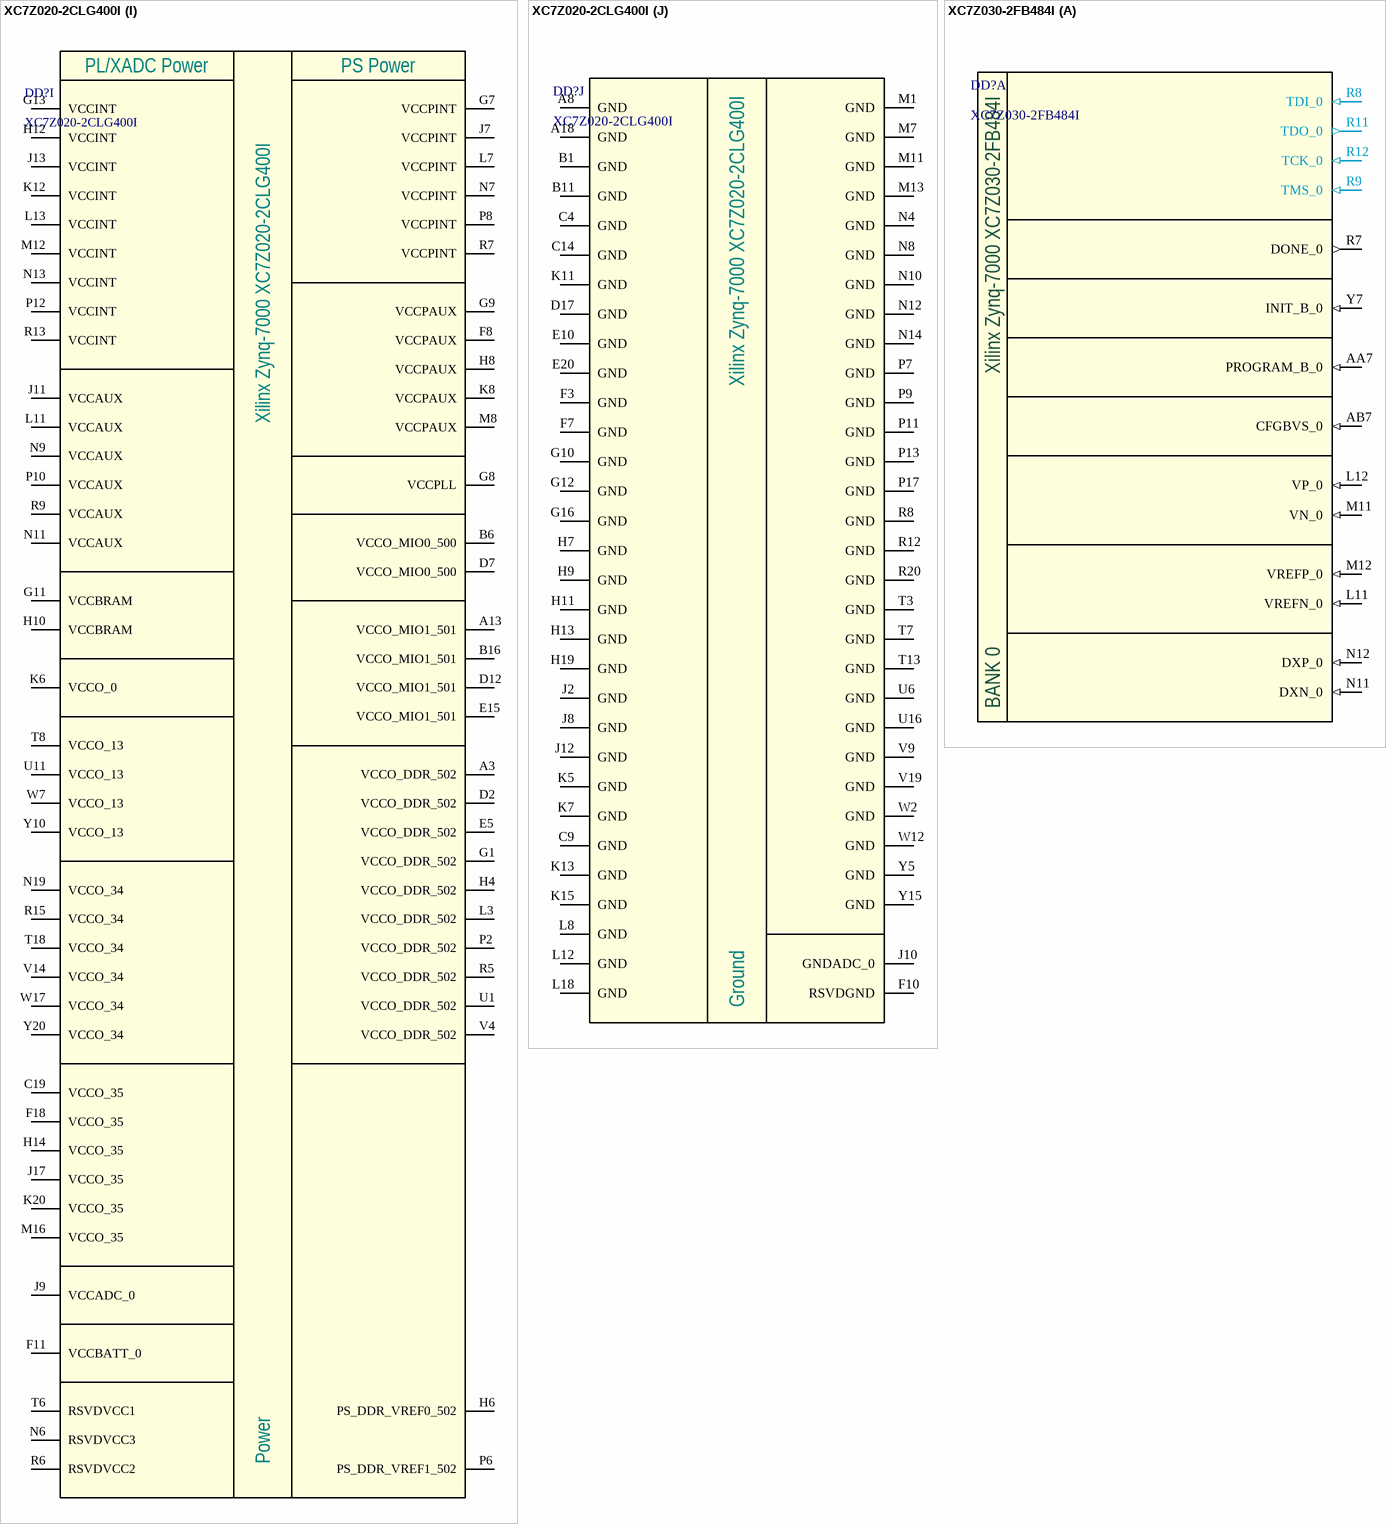
[diagram p27: symbols XC7Z020-2CLG400I to XC7Z030-2FB484I]

## XC7Z020-2CLG400I
designator DD?
Zynq-7000 Series SoC, Speed Grade 2, Industrial Grade; Manufacturer: Xilinx; Speed Grade: -2; PackageReference: CSPBGA-400; Part Number: XC7Z020-2CLG400I
footprint CLG400 (CLG400 Package for Zynq-7000 Series SoC)
part A pins: F6 TDO_0 (out), F9 TCK_0 (in), G6 TDI_0 (in), J6 TMS_0 (in), K9 VP_0 (in), K10 VREFN_0 (in), L6 PROGRAM_B_0 (in), L9 VREFP_0 (in), L10 VN_0 (in), M6 CFGBVS_0 (in), M9 DXP_0 (in), M10 DXN_0 (in), R10 INIT_B_0 (in), R11 DONE_0 (out)
part B pins: T5 IO_L19P_T3_13 (io), T9 IO_L12P_T1_MRCC_13 (io), U5 IO_L19N_T3_VREF_13 (io), U7 IO_L11P_T1_SRCC_13 (io), U8 IO_L17N_T2_13 (io), U9 IO_L17P_T2_13 (io), U10 IO_L12N_T1_MRCC_13 (io), V5 IO_L6N_T0_VREF_13 (io), V6 IO_L22P_T3_13 (io), V7 IO_L11N_T1_SRCC_13 (io), V8 IO_L15P_T2_DQS_13 (io), V10 IO_L21N_T3_DQS_13 (io), V11 IO_L21P_T3_DQS_13 (io), W6 IO_L22N_T3_13 (io), W8 IO_L15N_T2_DQS_13 (io), W9 IO_L16N_T2_13 (io), W10 IO_L16P_T2_13 (io), W11 IO_L18P_T2_13 (io), Y6 IO_L13N_T2_MRCC_13 (io), Y7 IO_L13P_T2_MRCC_13 (io), Y8 IO_L14N_T2_SRCC_13 (io), Y9 IO_L14P_T2_SRCC_13 (io), Y11 IO_L18N_T2_13 (io), Y12 IO_L20P_T3_13 (io), Y13 IO_L20N_T3_13 (io)
part C pins: N17 IO_L23P_T3_34 (io), N18 IO_L13P_T2_MRCC_34 (io), N20 IO_L14P_T2_SRCC_34 (io), P14 IO_L6P_T0_34 (io), P15 IO_L24P_T3_34 (io), P16 IO_L24N_T3_34 (io), P18 IO_L23N_T3_34 (io), P19 IO_L13N_T2_MRCC_34 (io), P20 IO_L14N_T2_SRCC_34 (io), R14 IO_L6N_T0_VREF_34 (io), R16 IO_L19P_T3_34 (io), R17 IO_L19N_T3_VREF_34 (io), R18 IO_L20N_T3_34 (io), R19 IO_0_34 (io), T10 IO_L1N_T0_34 (io), T11 IO_L1P_T0_34 (io), T12 IO_L2P_T0_34 (io), T14 IO_L5P_T0_34 (io), T15 IO_L5N_T0_34 (io), T16 IO_L9P_T1_DQS_34 (io), T17 IO_L20P_T3_34 (io), T19 IO_25_34 (io), T20 IO_L15P_T2_DQS_34 (io), U12 IO_L2N_T0_34 (io), U13 IO_L3P_T0_DQS_PUDC_B_34 (io), U14 IO_L11P_T1_SRCC_34 (io), U15 IO_L11N_T1_SRCC_34 (io), U17 IO_L9N_T1_DQS_34 (io), U18 IO_L12P_T1_MRCC_34 (io), U19 IO_L12N_T1_MRCC_34 (io), U20 IO_L15N_T2_DQS_34 (io), V12 IO_L4P_T0_34 (io), V13 IO_L3N_T0_DQS_34 (io), V15 IO_L10P_T1_34 (io), V16 IO_L18P_T2_34 (io), V17 IO_L21P_T3_DQS_34 (io), V18 IO_L21N_T3_DQS_34 (io), V20 IO_L16P_T2_34 (io), W13 IO_L4N_T0_34 (io), W14 IO_L8P_T1_34 (io), W15 IO_L10N_T1_34 (io), W16 IO_L18N_T2_34 (io), W18 IO_L22P_T3_34 (io), W19 IO_L22N_T3_34 (io), W20 IO_L16N_T2_34 (io), Y14 IO_L8N_T1_34 (io), Y16 IO_L7P_T1_34 (io), Y17 IO_L7N_T1_34 (io), Y18 IO_L17P_T2_34 (io), Y19 IO_L17N_T2_34 (io)
part D pins: A20 IO_L2N_T0_AD8N_35 (io), B19 IO_L2P_T0_AD8P_35 (io), B20 IO_L1N_T0_AD0N_35 (io), C20 IO_L1P_T0_AD0P_35 (io), D18 IO_L3N_T0_DQS_AD1N_35 (io), D19 IO_L4P_T0_35 (io), D20 IO_L4N_T0_35 (io), E17 IO_L3P_T0_DQS_AD1P_35 (io), E18 IO_L5P_T0_AD9P_35 (io), E19 IO_L5N_T0_AD9N_35 (io), F16 IO_L6P_T0_35 (io), F17 IO_L6N_T0_VREF_35 (io), F19 IO_L15P_T2_DQS_AD12P_35 (io), F20 IO_L15N_T2_DQS_AD12N_35 (io), G14 IO_0_35 (io), G15 IO_L19N_T3_VREF_35 (io), G17 IO_L16P_T2_35 (io), G18 IO_L16N_T2_35 (io), G19 IO_L18P_T2_AD13P_35 (io), G20 IO_L18N_T2_AD13N_35 (io), H15 IO_L19P_T3_35 (io), H16 IO_L13P_T2_MRCC_35 (io), H17 IO_L13N_T2_MRCC_35 (io), H18 IO_L14N_T2_AD4N_SRCC_35 (io), H20 IO_L17N_T2_AD5N_35 (io), J14 IO_L20N_T3_AD6N_35 (io), J15 IO_25_35 (io), J16 IO_L24N_T3_AD15N_35 (io), J18 IO_L14P_T2_AD4P_SRCC_35 (io), J19 IO_L10N_T1_AD11N_35 (io), J20 IO_L17P_T2_AD5P_35 (io), K14 IO_L20P_T3_AD6P_35 (io), K16 IO_L24P_T3_AD15P_35 (io), K17 IO_L12P_T1_MRCC_35 (io), K18 IO_L12N_T1_MRCC_35 (io), K19 IO_L10P_T1_AD11P_35 (io), L14 IO_L22P_T3_AD7P_35 (io), L15 IO_L22N_T3_AD7N_35 (io), L16 IO_L11P_T1_SRCC_35 (io), L17 IO_L11N_T1_SRCC_35 (io), L19 IO_L9P_T1_DQS_AD3P_35 (io), L20 IO_L9N_T1_DQS_AD3N_35 (io), M14 IO_L23P_T3_35 (io), M15 IO_L23N_T3_35 (io), M17 IO_L8P_T1_AD10P_35 (io), M18 IO_L8N_T1_AD10N_35 (io), M19 IO_L7P_T1_AD2P_35 (io), M20 IO_L7N_T1_AD2N_35 (io), N15 IO_L21P_T3_DQS_AD14P_35 (io), N16 IO_L21N_T3_DQS_AD14N_35 (io)
part E pins: A5 PS_MIO6_500 (io), A6 PS_MIO5_500 (io), A7 PS_MIO1_500 (io), B5 PS_MIO9_500 (io), B7 PS_MIO4_500 (io), B8 PS_MIO2_500 (io), C5 PS_MIO14_500 (io), C6 PS_MIO11_500 (io), C7 PS_MIO_POR_B_500 (io), C8 PS_MIO15_500 (io), D5 PS_MIO8_500 (io), D6 PS_MIO3_500 (io), D8 PS_MIO7_500 (io), D9 PS_MIO12_500 (io), E6 PS_MIO0_500 (io), E7 PS_MIO_CLK_500 (io), E8 PS_MIO13_500 (io), E9 PS_MIO10_500 (io)
part F pins: A9 PS_MIO43_501 (io), A10 PS_MIO37_501 (io), A11 PS_MIO36_501 (io), A12 PS_MIO34_501 (io), A14 PS_MIO32_501 (io), A15 PS_MIO26_501 (io), A16 PS_MIO24_501 (io), A17 PS_MIO20_501 (io), A19 PS_MIO16_501 (io), B9 PS_MIO51_501 (io), B10 PS_SRST_B_501 (io), B12 PS_MIO48_501 (io), B13 PS_MIO50_501 (io), B14 PS_MIO47_501 (io), B15 PS_MIO45_501 (io), B17 PS_MIO22_501 (io), B18 PS_MIO18_501 (io), C10 PS_MIO52_501 (io), C11 PS_MIO53_501 (io), C12 PS_MIO49_501 (io), C13 PS_MIO29_501 (io), C15 PS_MIO30_501 (io), C16 PS_MIO28_501 (io), C17 PS_MIO41_501 (io), C18 PS_MIO39_501 (io), D10 PS_MIO19_501 (io), D11 PS_MIO23_501 (io), D13 PS_MIO27_501 (io), D14 PS_MIO40_501 (io), D15 PS_MIO33_501 (io), D16 PS_MIO46_501 (io), E11 PS_MIO_VREF_501 (io), E12 PS_MIO42_501 (io), E13 PS_MIO38_501 (io), E14 PS_MIO17_501 (io), E16 PS_MIO31_501 (io), F12 PS_MIO35_501 (io), F13 PS_MIO44_501 (io), F14 PS_MIO21_501 (io), F15 PS_MIO25_501 (io)
part G pins: A2 PS_DDR_DQ2_502 (io), A4 PS_DDR_DQ3_502 (io), B2 PS_DDR_DQS_N0_502 (io), B3 PS_DDR_DQ1_502 (io), C1 PS_DDR_DQ6_502 (io), C2 PS_DDR_DQS_P0_502 (io), C3 PS_DDR_DQ0_502 (io), D1 PS_DDR_DQ5_502 (io), D3 PS_DDR_DQ4_502 (io), E1 PS_DDR_DQ7_502 (io), E2 PS_DDR_DQ8_502 (io), E3 PS_DDR_DQ9_502 (io), F2 PS_DDR_DQS_N1_502 (io), G2 PS_DDR_DQS_P1_502 (io), G3 PS_DDR_DQ10_502 (io), H1 PS_DDR_DQ14_502 (io), H2 PS_DDR_DQ13_502 (io), H3 PS_DDR_DQ11_502 (io), J1 PS_DDR_DQ15_502 (io), J3 PS_DDR_DQ12_502 (io), P1 PS_DDR_DQ16_502 (io), P3 PS_DDR_DQ17_502 (io), R1 PS_DDR_DQ19_502 (io), R2 PS_DDR_DQS_P2_502 (io), R3 PS_DDR_DQ18_502 (io), T2 PS_DDR_DQS_N2_502 (io), T4 PS_DDR_DQ20_502 (io), U2 PS_DDR_DQ22_502 (io), U3 PS_DDR_DQ23_502 (io), U4 PS_DDR_DQ21_502 (io), V1 PS_DDR_DQ24_502 (io), V2 PS_DDR_DQ30_502 (io), V3 PS_DDR_DQ31_502 (io), W1 PS_DDR_DQ26_502 (io), W3 PS_DDR_DQ29_502 (io), W4 PS_DDR_DQS_N3_502 (io), W5 PS_DDR_DQS_P3_502 (io), Y2 PS_DDR_DQ28_502 (io), Y3 PS_DDR_DQ25_502 (io), Y4 PS_DDR_DQ27_502 (io)
part H pins: A1 PS_DDR_DM0_502 (io), B4 PS_DDR_DRST_B_502 (io), D4 PS_DDR_A13_502 (io), E4 PS_DDR_A12_502 (io), F1 PS_DDR_DM1_502 (io), F4 PS_DDR_A14_502 (io), F5 PS_DDR_A10_502 (io), G4 PS_DDR_A11_502 (io), G5 PS_DDR_VRN_502 (io), H5 PS_DDR_VRP_502 (io), J4 PS_DDR_A9_502 (io), J5 PS_DDR_BA2_502 (io), K1 PS_DDR_A8_502 (io), K2 PS_DDR_A1_502 (io), K3 PS_DDR_A3_502 (io), K4 PS_DDR_A7_502 (io), L1 PS_DDR_A5_502 (io), L2 PS_DDR_CKP_502 (io), L4 PS_DDR_A6_502 (io), L5 PS_DDR_BA0_502 (io), M2 PS_DDR_CKN_502 (io), M3 PS_DDR_A2_502 (io), M4 PS_DDR_A4_502 (io), M5 PS_DDR_WE_B_502 (io), N1 PS_DDR_CS_B_502 (io), N2 PS_DDR_A0_502 (io), N3 PS_DDR_CKE_502 (io), N5 PS_DDR_ODT_502 (io), P4 PS_DDR_RAS_B_502 (io), P5 PS_DDR_CAS_B_502 (io), R4 PS_DDR_BA1_502 (io), T1 PS_DDR_DM2_502 (io), Y1 PS_DDR_DM3_502 (io)
part I pins: A3 VCCO_DDR_502 (power), A13 VCCO_MIO1_501 (power), B6 VCCO_MIO0_500 (power), B16 VCCO_MIO1_501 (power), C19 VCCO_35 (power), D2 VCCO_DDR_502 (power), D7 VCCO_MIO0_500 (power), D12 VCCO_MIO1_501 (power), E5 VCCO_DDR_502 (power), E15 VCCO_MIO1_501 (power), F8 VCCPAUX (power), F11 VCCBATT_0 (power), F18 VCCO_35 (power), G1 VCCO_DDR_502 (power), G7 VCCPINT (power), G8 VCCPLL (power), G9 VCCPAUX (power), G11 VCCBRAM (power), G13 VCCINT (power), H4 VCCO_DDR_502 (power), H6 PS_DDR_VREF0_502 (power), H8 VCCPAUX (power), H10 VCCBRAM (power), H12 VCCINT (power), H14 VCCO_35 (power), J7 VCCPINT (power), J9 VCCADC_0 (power), J11 VCCAUX (power), J13 VCCINT (power), J17 VCCO_35 (power), K6 VCCO_0 (power), K8 VCCPAUX (power), K12 VCCINT (power), K20 VCCO_35 (power), L3 VCCO_DDR_502 (power), L7 VCCPINT (power), L11 VCCAUX (power), L13 VCCINT (power), M8 VCCPAUX (power), M12 VCCINT (power), M16 VCCO_35 (power), N6 RSVDVCC3 (power), N7 VCCPINT (power), N9 VCCAUX (power), N11 VCCAUX (power), N13 VCCINT (power), N19 VCCO_34 (power), P2 VCCO_DDR_502 (power), P6 PS_DDR_VREF1_502 (power), P8 VCCPINT (power), P10 VCCAUX (power), P12 VCCINT (power), R5 VCCO_DDR_502 (power), R6 RSVDVCC2 (power), R7 VCCPINT (power), R9 VCCAUX (power), R13 VCCINT (power), R15 VCCO_34 (power), T6 RSVDVCC1 (power), T8 VCCO_13 (power), T18 VCCO_34 (power), U1 VCCO_DDR_502 (power), U11 VCCO_13 (power), V4 VCCO_DDR_502 (power), V14 VCCO_34 (power), W7 VCCO_13 (power), W17 VCCO_34 (power), Y10 VCCO_13 (power), Y20 VCCO_34 (power)
part J pins: A8 GND (power), A18 GND (power), B1 GND (power), B11 GND (power), C4 GND (power), C9 GND (power), C14 GND (power), D17 GND (power), E10 GND (power), E20 GND (power), F3 GND (power), F7 GND (power), F10 RSVDGND (power), G10 GND (power), G12 GND (power), G16 GND (power), H7 GND (power), H9 GND (power), H11 GND (power), H13 GND (power), H19 GND (power), J2 GND (power), J8 GND (power), J10 GNDADC_0 (power), J12 GND (power), K5 GND (power), K7 GND (power), K11 GND (power), K13 GND (power), K15 GND (power), L8 GND (power), L12 GND (power), L18 GND (power), M1 GND (power), M7 GND (power), M11 GND (power), M13 GND (power), N4 GND (power), N8 GND (power), N10 GND (power), N12 GND (power), N14 GND (power), P7 GND (power), P9 GND (power), P11 GND (power), P13 GND (power), P17 GND (power), R8 GND (power), R12 GND (power), R20 GND (power), T3 GND (power), T7 GND (power), T13 GND (power), U6 GND (power), U16 GND (power), V9 GND (power), V19 GND (power), W2 GND (power), W12 GND (power), Y5 GND (power), Y15 GND (power)
part A text: Xilinx Zynq-7000 XC7Z020-2CLG400I; BANK 0
part B text: Xilinx Zynq-7000 XC7Z020-2CLG400I; BANK 13
part C text: Xilinx Zynq-7000 XC7Z020-2CLG400I; BANK 34
part D text: Xilinx Zynq-7000 XC7Z020-2CLG400I; BANK 35
part E text: Xilinx Zynq-7000 XC7Z020-2CLG400I; BANK 500
part F text: Xilinx Zynq-7000 XC7Z020-2CLG400I; BANK 501
part G text: Xilinx Zynq-7000 XC7Z020-2CLG400I; BANK 502
part H text: Xilinx Zynq-7000 XC7Z020-2CLG400I; BANK 502
part I text: PL/XADC Power; PS Power; Xilinx Zynq-7000 XC7Z020-2CLG400I; Power
part J text: Xilinx Zynq-7000 XC7Z020-2CLG400I; Ground

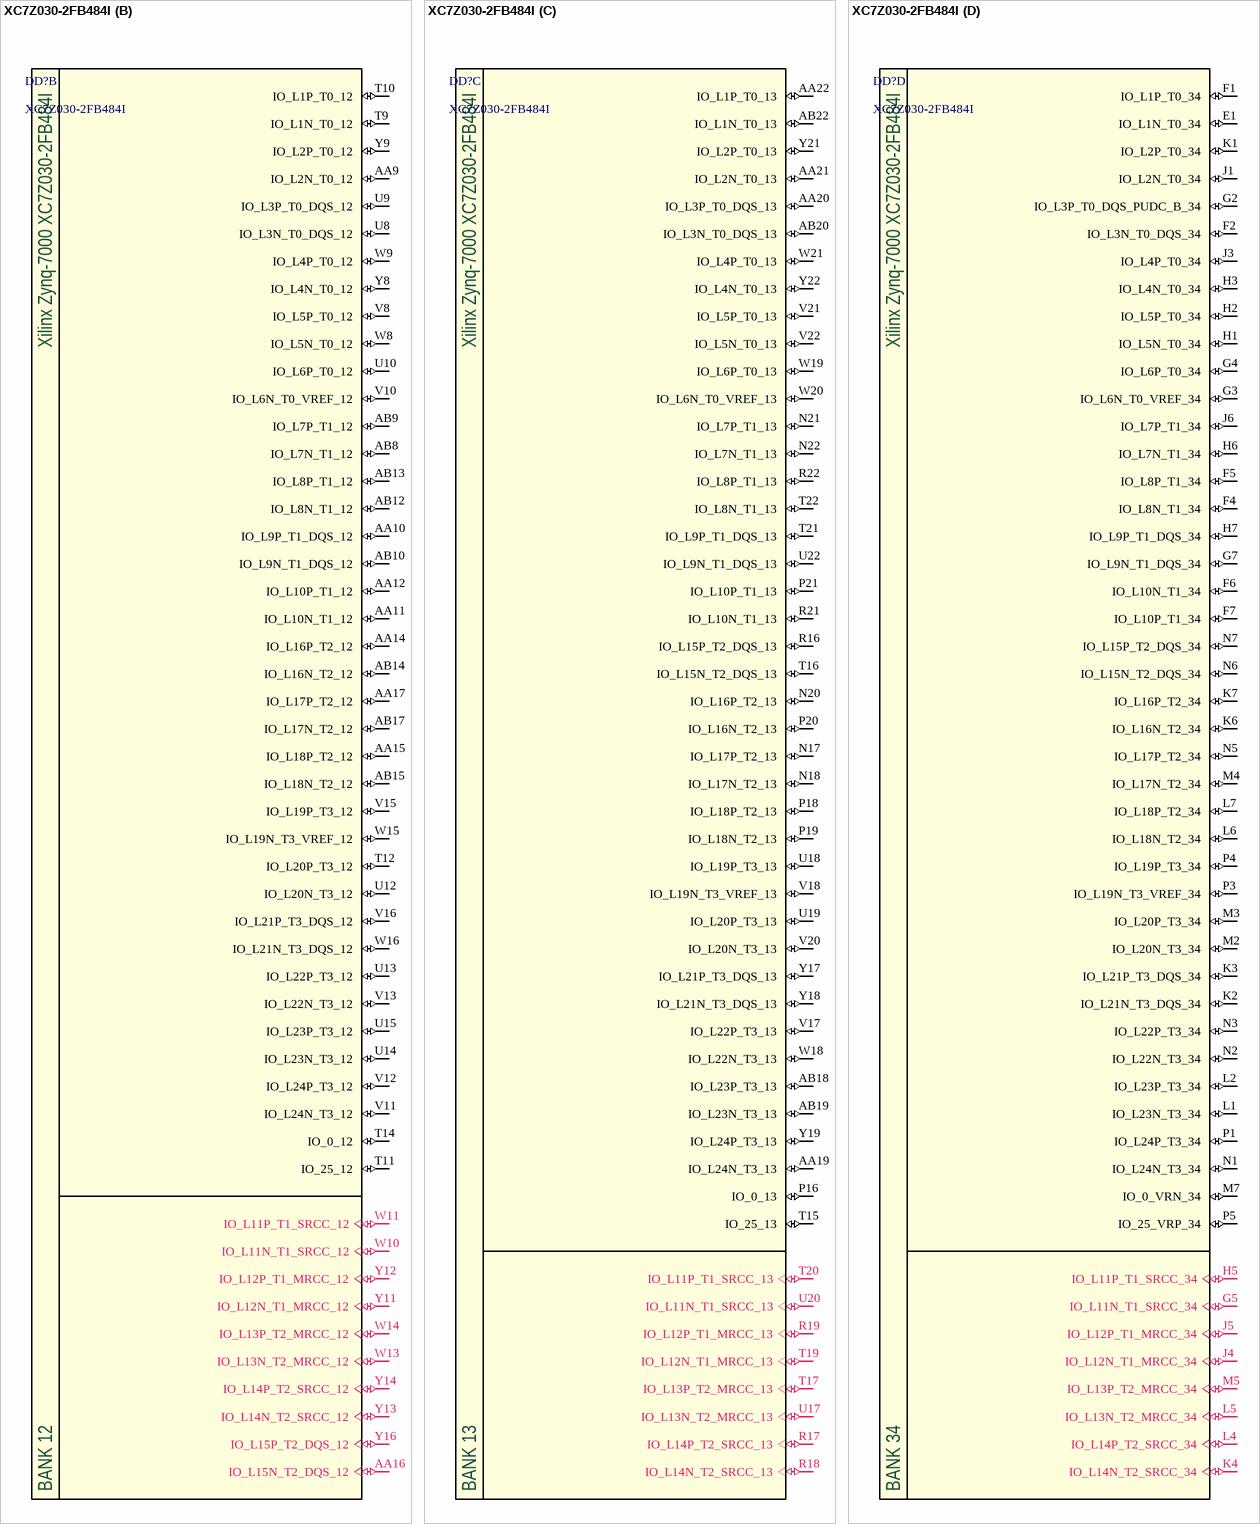
[diagram p28: symbol XC7Z030-2FB484I]

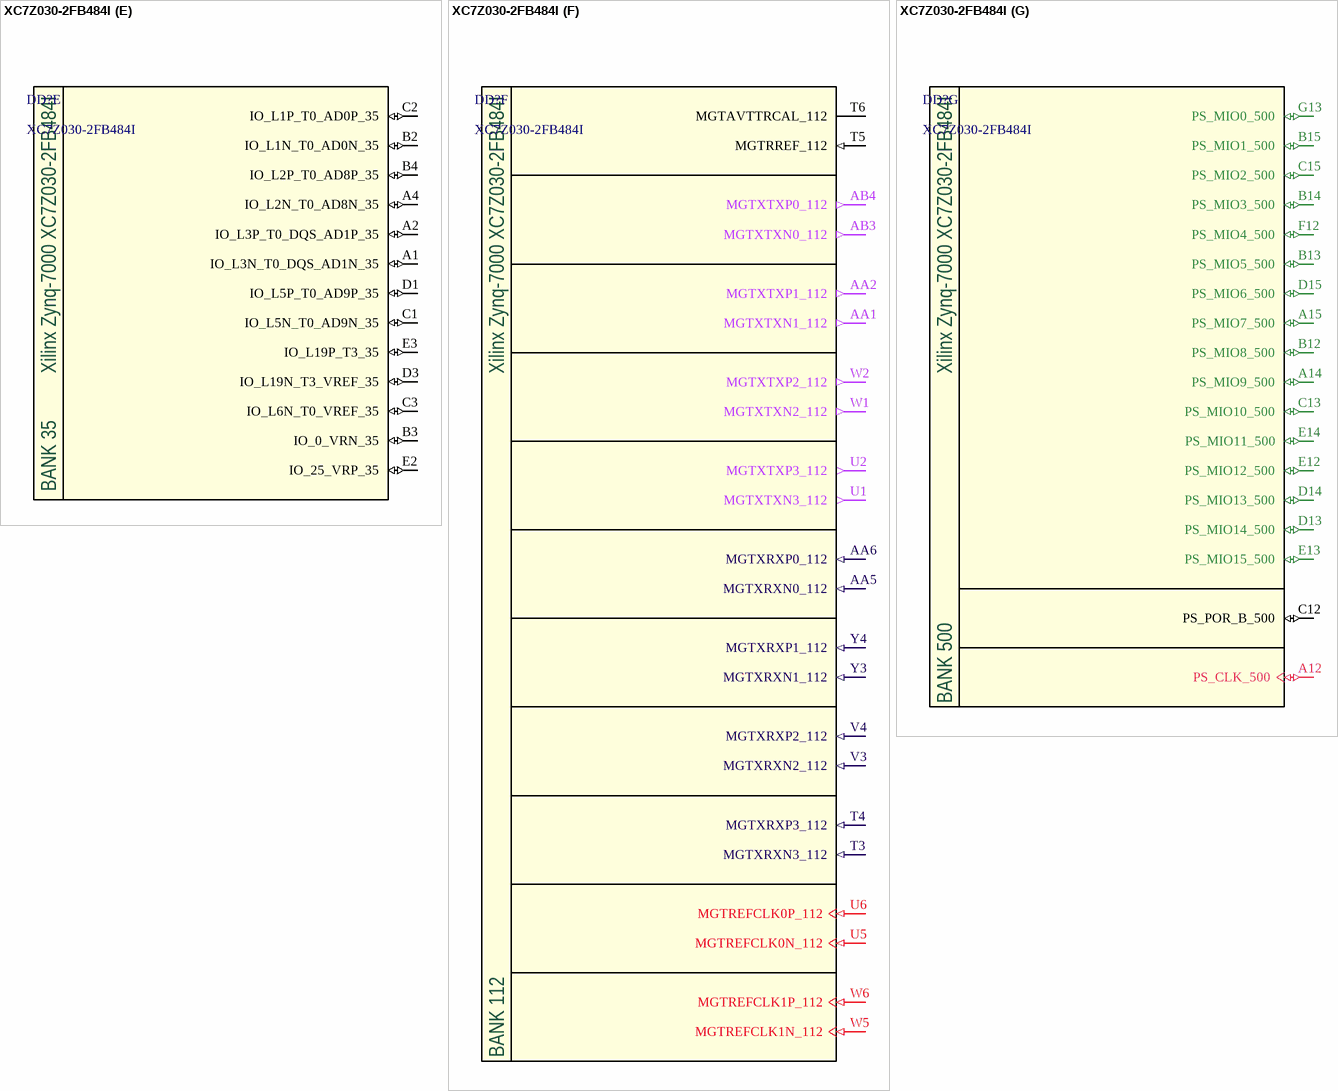
[diagram p29: symbol XC7Z030-2FB484I]

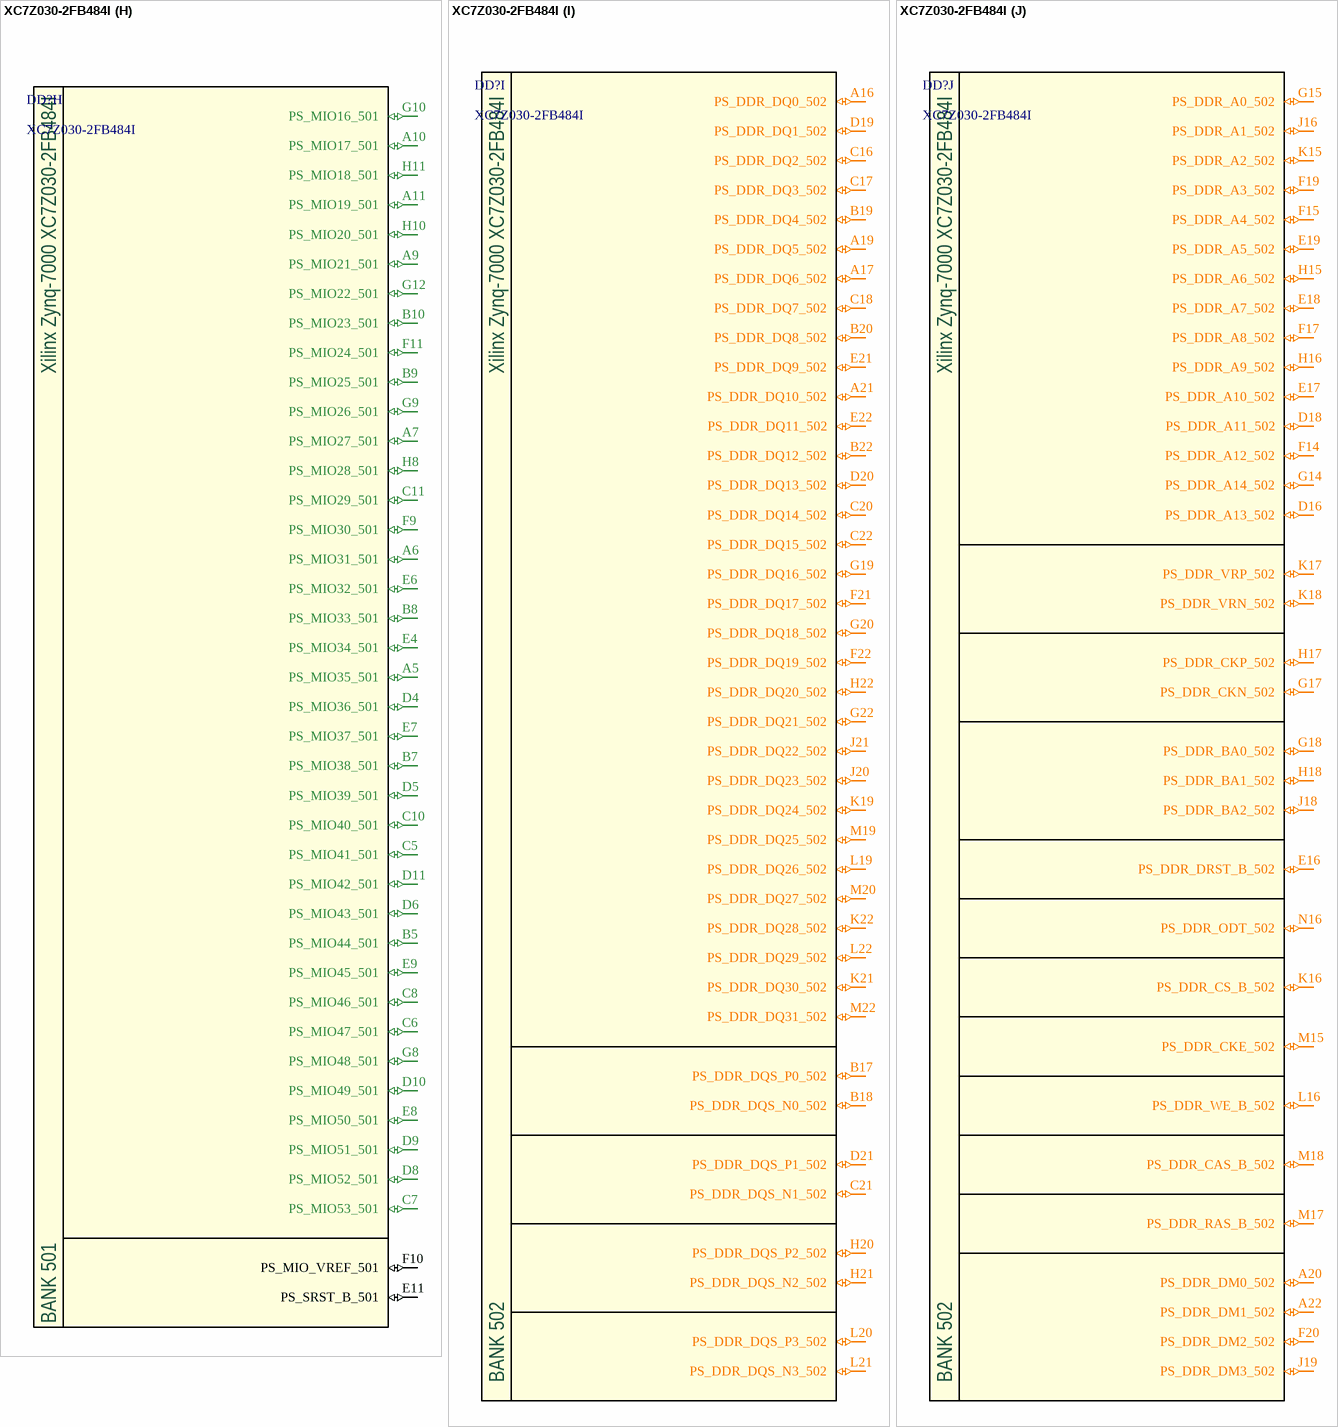
[diagram p30: symbol XC7Z030-2FB484I]

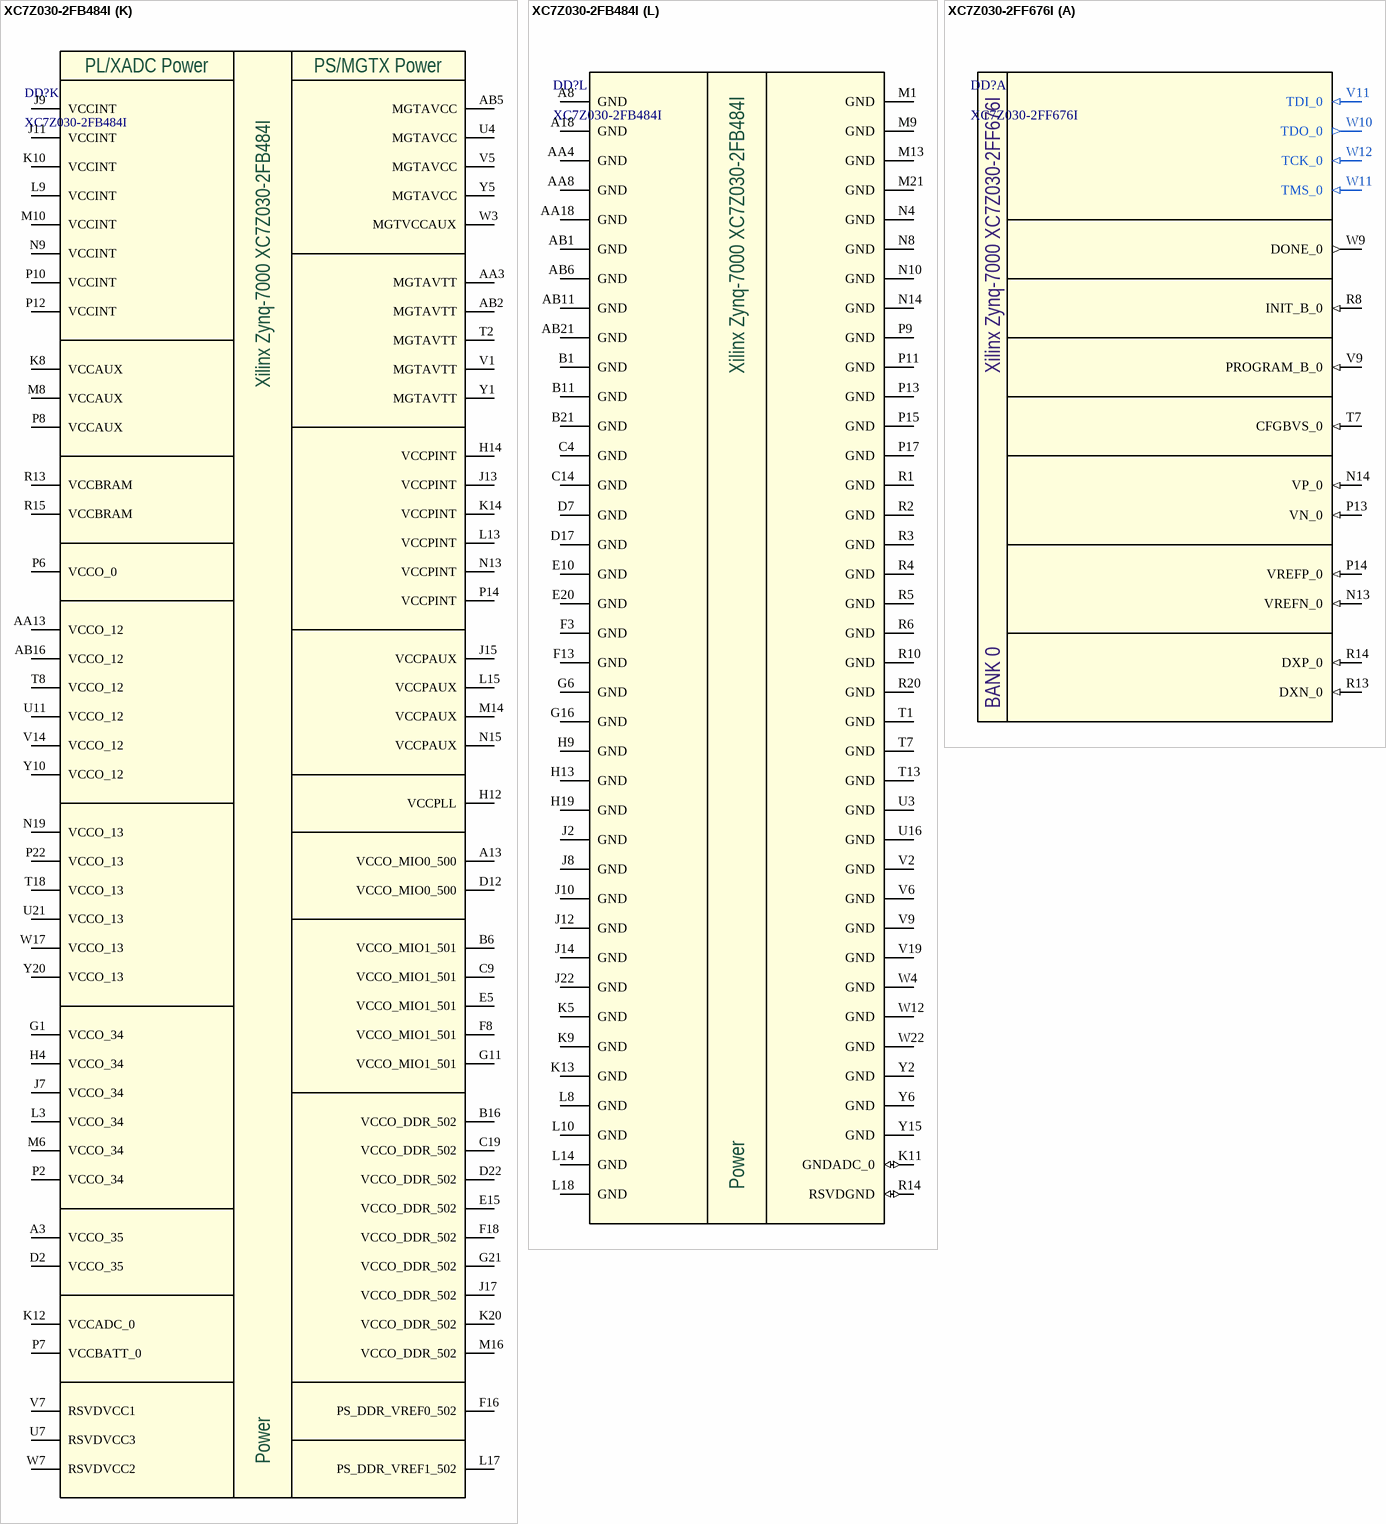
[diagram p31: symbols XC7Z030-2FB484I to XC7Z030-2FF676I]